# Altium schematic symbol library FPGA_Xilinx_Virtex7.SchLib: 34 symbols (part 10 of 26)
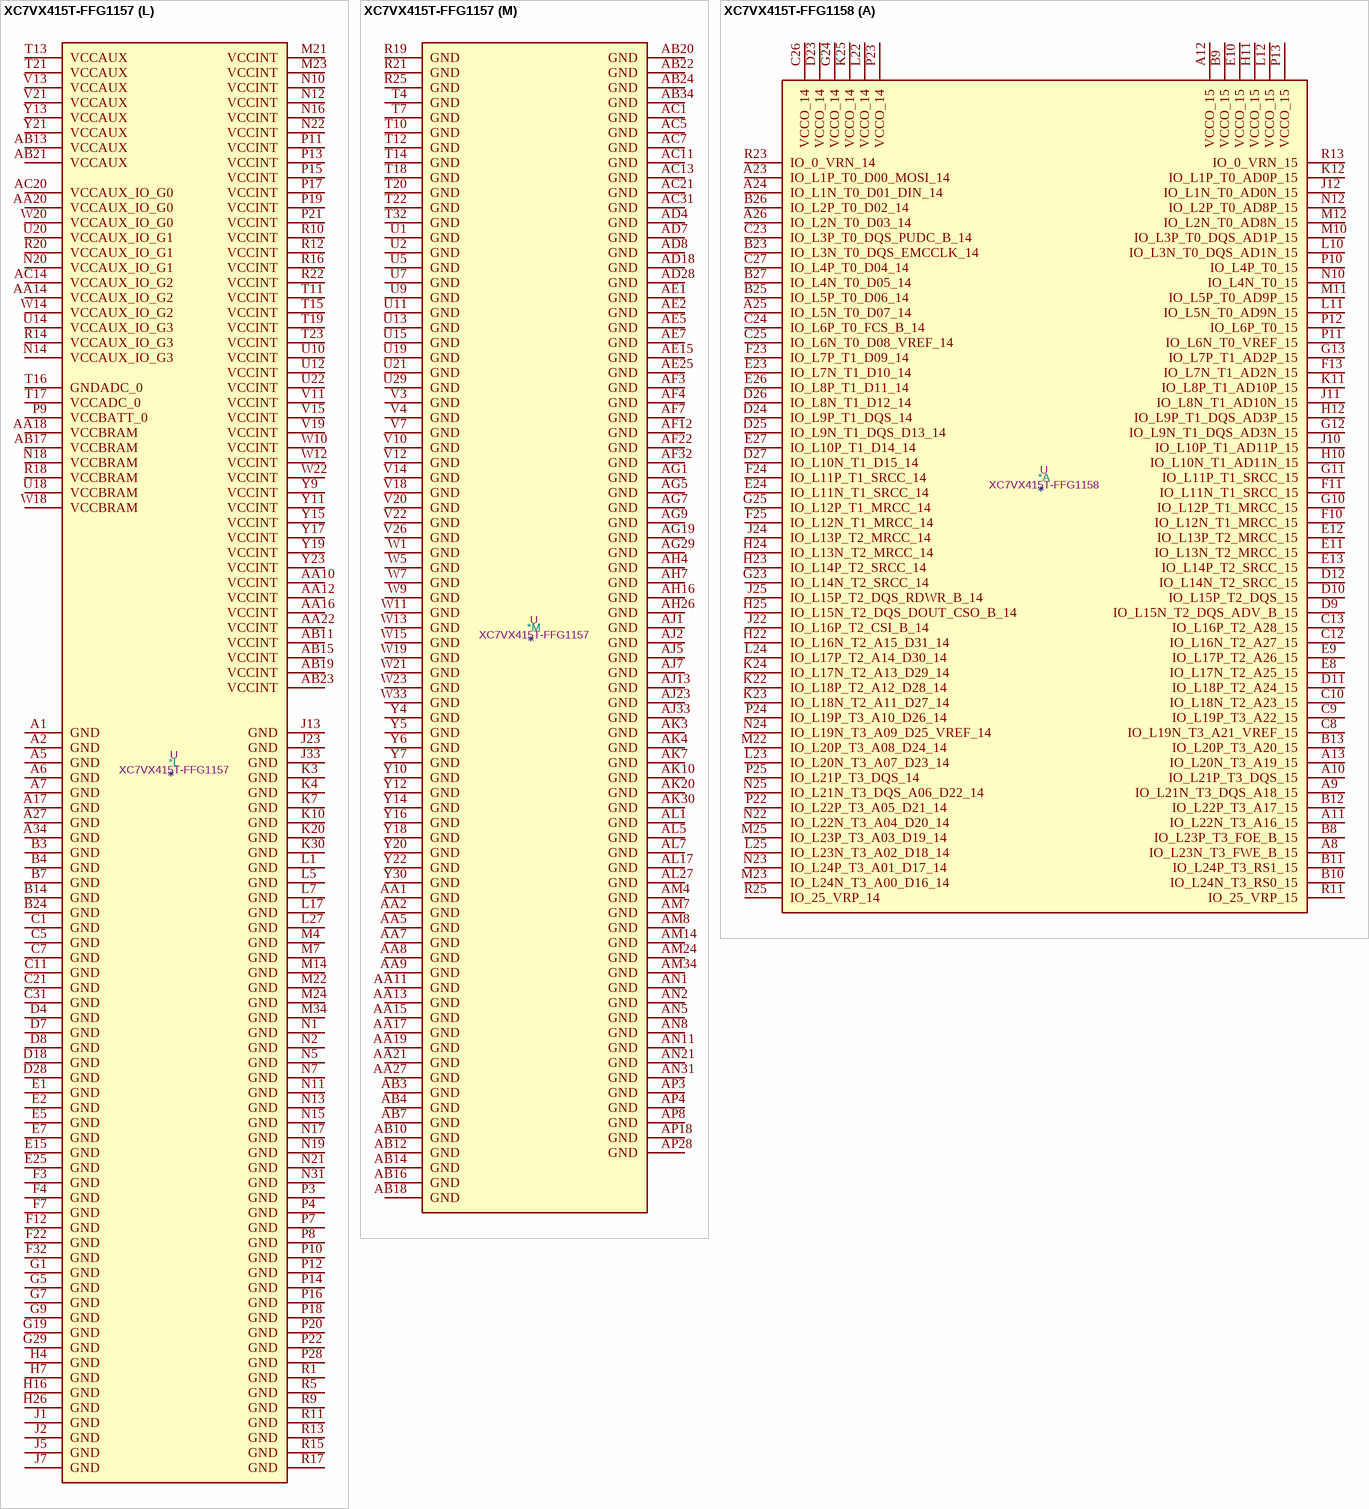
[diagram p181: symbols XC7VX415T-FFG1157 to XC7VX415T-FFG1158]

## XC7VX415T-FFG1157
designator *  value XC7VX415T-FFG1157  Reference: U
Virtex 7 XT 415 XC7VX415T-FFG1157; ki_keywords: FPGA; Description_: Virtex 7 XT 415 XC7VX415T-FFG1157
part A pins: AC23 IO_25_VRP_15, AC24 IO_L24P_T3_RS1_15, AC25 IO_L23P_T3_FOE_B_15, AC26 VCCO_15, AC27 IO_0_VRN_15, AC28 IO_L15P_T2_DQS_15, AC29 IO_L15N_T2_DQS_ADV_B_15, AC30 IO_L8P_T1_AD10P_15, AD23 VCCO_15, AD24 IO_L24N_T3_RS0_15, AD25 IO_L23N_T3_FWE_B_15, AD26 IO_L19P_T3_A22_15, AD27 IO_L19N_T3_A21_VREF_15, AD29 IO_L13P_T2_MRCC_15, AD30 IO_L8N_T1_AD10N_15, AD31 IO_L10P_T1_AD11P_15, AD32 IO_L10N_T1_AD11N_15, AD33 VCCO_15, AD34 IO_L2P_T0_AD8P_15, AE23 IO_L22P_T3_A17_15, AE24 IO_L22N_T3_A16_15, AE26 IO_L21P_T3_DQS_15, AE27 IO_L16P_T2_A28_15, AE28 IO_L14P_T2_SRCC_15, AE29 IO_L13N_T2_MRCC_15, AE30 VCCO_15, AE31 IO_L12P_T1_MRCC_15, AE32 IO_L7P_T1_AD2P_15, AE33 IO_L7N_T1_AD2N_15, AE34 IO_L2N_T0_AD8N_15, AF24 IO_25_VRP_14, AF25 IO_0_VRN_14, AF26 IO_L21N_T3_DQS_A18_15, AF27 VCCO_15, AF28 IO_L16N_T2_A27_15, AF29 IO_L14N_T2_SRCC_15, AF30 IO_L11P_T1_SRCC_15, AF31 IO_L12N_T1_MRCC_15, AF33 IO_L1P_T0_AD0P_15, AF34 IO_L1N_T0_AD0N_15, AG24 VCCO_14, AG25 IO_L16P_T2_CSI_B_14, AG26 IO_L20P_T3_A20_15, AG27 IO_L20N_T3_A19_15, AG28 IO_L17P_T2_A26_15, AG30 IO_L9P_T1_DQS_AD3P_15, AG31 IO_L11N_T1_SRCC_15, AG32 IO_L3P_T0_DQS_AD1P_15, AG33 IO_L6P_T0_15, AG34 VCCO_15, AH24 IO_L17P_T2_A14_D30_14, AH25 IO_L16N_T2_A15_D31_14, AH27 IO_L18P_T2_A24_15, AH28 IO_L18N_T2_A23_15, AH29 IO_L17N_T2_A25_15, AH30 IO_L9N_T1_DQS_AD3N_15, AH31 VCCO_15, AH32 IO_L3N_T0_DQS_AD1N_15, AH33 IO_L6N_T0_VREF_15, AH34 IO_L4P_T0_15, AJ25 IO_L17N_T2_A13_D29_14, AJ26 IO_L15P_T2_DQS_RDWR_B_14, AJ27 IO_L15N_T2_DQS_DOUT_CSO_B_14, AJ28 VCCO_14, AJ29 IO_L10P_T1_D14_14, AJ30 IO_L8P_T1_D11_14, AJ31 IO_L5P_T0_AD9P_15, AJ32 IO_L5N_T0_AD9N_15, AJ34 IO_L4N_T0_15, AK26 IO_L14P_T2_SRCC_14, AK27 IO_L14N_T2_SRCC_14, AK28 IO_L13P_T2_MRCC_14, AK29 IO_L10N_T1_D15_14, AK31 IO_L8N_T1_D12_14, AK32 IO_L4P_T0_D04_14, AK33 IO_L4N_T0_D05_14, AK34 IO_L2P_T0_D02_14, AL25 IO_L18P_T2_A12_D28_14, AL26 IO_L18N_T2_A11_D27_14, AL28 IO_L13N_T2_MRCC_14, AL29 IO_L12P_T1_MRCC_14, AL30 IO_L12N_T1_MRCC_14, AL31 IO_L11P_T1_SRCC_14, AL32 VCCO_14, AL33 IO_L6P_T0_FCS_B_14, AL34 IO_L2N_T0_D03_14, AM25 IO_L21P_T3_DQS_14, AM26 IO_L19P_T3_A10_D26_14, AM27 IO_L19N_T3_A09_D25_VREF_14, AM28 IO_L22P_T3_A05_D21_14, AM29 VCCO_14, AM30 IO_L9P_T1_DQS_14, AM31 IO_L11N_T1_SRCC_14, AM32 IO_L5P_T0_D06_14, AM33 IO_L6N_T0_D08_VREF_14, AN25 IO_L21N_T3_DQS_A06_D22_14, AN26 VCCO_14, AN27 IO_L24P_T3_A01_D17_14, AN28 IO_L22N_T3_A04_D20_14, AN29 IO_L20P_T3_A08_D24_14, AN30 IO_L9N_T1_DQS_D13_14, AN32 IO_L5N_T0_D07_14, AN33 IO_L1P_T0_D00_MOSI_14, AN34 IO_L1N_T0_D01_DIN_14, AP25 IO_L23P_T3_A03_D19_14, AP26 IO_L23N_T3_A02_D18_14, AP27 IO_L24N_T3_A00_D16_14, AP29 IO_L20N_T3_A07_D23_14, AP30 IO_L7P_T1_D09_14, AP31 IO_L7N_T1_D10_14, AP32 IO_L3P_T0_DQS_PUDC_B_14, AP33 IO_L3N_T0_DQS_EMCCLK_14, AP34 VCCO_14
part B pins: AA23 IO_L24P_T3_16, AA24 IO_L24N_T3_16, AA25 IO_L23N_T3_16, AA26 IO_L21P_T3_DQS_16, AA28 IO_L13P_T2_MRCC_16, AA29 IO_L13N_T2_MRCC_16, AA30 IO_L9P_T1_DQS_16, AA31 IO_L11N_T1_SRCC_16, AA32 VCCO_16, AA33 IO_L1P_T0_16, AA34 IO_L1N_T0_16, AB25 IO_25_VRP_16, AB26 IO_L21N_T3_DQS_16, AB27 IO_L18P_T2_16, AB28 IO_L18N_T2_16, AB29 VCCO_16, AB30 IO_L9N_T1_DQS_16, AB31 IO_L7P_T1_16, AB32 IO_L7N_T1_16, AB33 IO_L3P_T0_DQS_16, AC32 IO_L5P_T0_16, AC33 IO_L5N_T0_16, AC34 IO_L3N_T0_DQS_16, M30 IO_L8P_T1_17, M31 IO_L8N_T1_17, M32 IO_L20P_T3_17, M33 IO_L20N_T3_17, N23 IO_0_VRN_17, N24 IO_L1P_T0_17, N25 IO_L1N_T0_17, N26 VCCO_17, N27 IO_L2P_T0_17, N28 IO_L2N_T0_17, N29 IO_L7P_T1_17, N30 IO_L7N_T1_17, N32 IO_L19N_T3_VREF_17, N33 IO_L22P_T3_17, N34 IO_L22N_T3_17, P23 VCCO_17, P24 IO_L4P_T0_17, P25 IO_L4N_T0_17, P26 IO_L6P_T0_17, P27 IO_L6N_T0_VREF_17, P29 IO_L12P_T1_MRCC_17, P30 IO_L12N_T1_MRCC_17, P31 IO_L11N_T1_SRCC_17, P32 IO_L19P_T3_17, P33 VCCO_17, P34 IO_L24N_T3_17, R23 IO_L3P_T0_DQS_17, R24 IO_L3N_T0_DQS_17, R26 IO_L15P_T2_DQS_17, R27 IO_L15N_T2_DQS_17, R28 IO_L13P_T2_MRCC_17, R29 IO_L13N_T2_MRCC_17, R30 VCCO_17, R31 IO_L11P_T1_SRCC_17, R32 IO_L9N_T1_DQS_17, R33 IO_L24P_T3_17, R34 IO_L21N_T3_DQS_17, T24 IO_L5P_T0_17, T25 IO_L5N_T0_17, T26 IO_L18N_T2_17, T27 VCCO_17, T28 IO_L16N_T2_17, T29 IO_L14P_T2_SRCC_17, T30 IO_L14N_T2_SRCC_17, T31 IO_L9P_T1_DQS_17, T33 IO_L21P_T3_DQS_17, T34 IO_L23N_T3_17, U23 IO_25_VRP_17, U24 VCCO_16, U25 IO_L18P_T2_17, U26 IO_L17P_T2_17, U27 IO_L17N_T2_17, U28 IO_L16P_T2_17, U30 IO_L8P_T1_16, U31 IO_L10P_T1_17, U32 IO_L10N_T1_17, U33 IO_L23P_T3_17, U34 VCCO_17, V23 IO_0_VRN_16, V24 IO_L20P_T3_16, V25 IO_L20N_T3_16, V27 IO_L15P_T2_DQS_16, V28 IO_L15N_T2_DQS_16, V29 IO_L16P_T2_16, V30 IO_L8N_T1_16, V31 VCCO_16, V32 IO_L6P_T0_16, V33 IO_L6N_T0_VREF_16, V34 IO_L2P_T0_16, W24 IO_L22P_T3_16, W25 IO_L22N_T3_16, W26 IO_L17P_T2_16, W27 IO_L17N_T2_16, W28 VCCO_16, W29 IO_L16N_T2_16, W30 IO_L12P_T1_MRCC_16, W31 IO_L12N_T1_MRCC_16, W32 IO_L10P_T1_16, W34 IO_L2N_T0_16, Y24 IO_L23P_T3_16, Y25 VCCO_16, Y26 IO_L19P_T3_16, Y27 IO_L19N_T3_VREF_16, Y28 IO_L14P_T2_SRCC_16, Y29 IO_L14N_T2_SRCC_16, Y31 IO_L11P_T1_SRCC_16, Y32 IO_L10N_T1_16, Y33 IO_L4P_T0_16, Y34 IO_L4N_T0_16
part C pins: A25 IO_L8P_T1_19, A26 IO_L8N_T1_19, A28 IO_L15P_T2_DQS_19, A29 IO_L15N_T2_DQS_19, A30 IO_L17P_T2_19, A31 IO_L17N_T2_19, A32 VCCO_19, A33 IO_L3N_T0_DQS_19, B25 IO_L7N_T1_19, B26 IO_L10P_T1_19, B27 IO_L10N_T1_19, B28 IO_L12N_T1_MRCC_19, B29 VCCO_19, B30 IO_L13N_T2_MRCC_19, B31 IO_L1P_T0_19, B32 IO_L1N_T0_19, B33 IO_L3P_T0_DQS_19, B34 IO_L4N_T0_19, C25 IO_L7P_T1_19, C26 VCCO_19, C27 IO_L12P_T1_MRCC_19, C28 IO_L14P_T2_SRCC_19, C29 IO_L14N_T2_SRCC_19, C30 IO_L13P_T2_MRCC_19, C32 IO_L6N_T0_VREF_19, C33 IO_L4P_T0_19, C34 IO_L2N_T0_19, D25 IO_L23N_T3_19, D26 IO_L9N_T1_DQS_19, D27 IO_L11N_T1_SRCC_19, D29 IO_L16P_T2_19, D30 IO_L16N_T2_19, D31 IO_L5N_T0_19, D32 IO_L6P_T0_19, D33 VCCO_19, D34 IO_L2P_T0_19, E24 IO_L23P_T3_19, E26 IO_L9P_T1_DQS_19, E27 IO_L11P_T1_SRCC_19, E28 IO_L18P_T2_19, E29 IO_L18N_T2_19, E30 VCCO_19, E31 IO_L5P_T0_19, E32 IO_L8P_T1_18, E33 IO_L8N_T1_18, E34 IO_L10N_T1_18, F24 IO_0_VRN_19, F25 IO_L21N_T3_DQS_19, F26 IO_L22N_T3_19, F27 VCCO_19, F28 IO_L24N_T3_19, F29 IO_L17N_T2_18, F30 IO_L9P_T1_DQS_18, F31 IO_L9N_T1_DQS_18, F33 IO_L10P_T1_18, F34 IO_L7N_T1_18, G24 VCCO_19, G25 IO_L21P_T3_DQS_19, G26 IO_L22P_T3_19, G27 IO_L24P_T3_19, G28 IO_L17P_T2_18, G30 IO_L12P_T1_MRCC_18, G31 IO_L12N_T1_MRCC_18, G32 IO_L11N_T1_SRCC_18, G33 IO_L7P_T1_18, G34 VCCO_18, H24 IO_L19N_T3_VREF_19, H25 IO_L20N_T3_19, H27 IO_0_VRN_18, H28 IO_L15N_T2_DQS_18, H29 IO_L13P_T2_MRCC_18, H30 IO_L13N_T2_MRCC_18, H31 VCCO_18, H32 IO_L11P_T1_SRCC_18, H33 IO_L21P_T3_DQS_18, H34 IO_L21N_T3_DQS_18, J24 IO_L19P_T3_19, J25 IO_L20P_T3_19, J26 IO_25_VRP_19, J27 IO_L15P_T2_DQS_18, J28 VCCO_18, J29 IO_L16N_T2_18, J30 IO_L14P_T2_SRCC_18, J31 IO_L14N_T2_SRCC_18, J32 IO_L19N_T3_VREF_18, J34 IO_L23N_T3_18, K23 IO_L1N_T0_18, K24 IO_L3N_T0_DQS_18, K25 VCCO_18, K26 IO_L5P_T0_18, K27 IO_L5N_T0_18, K28 IO_L16P_T2_18, K29 IO_L18N_T2_18, K31 IO_L19P_T3_18, K32 IO_L20P_T3_18, K33 IO_L20N_T3_18, K34 IO_L23P_T3_18, L22 VCCO_18, L23 IO_L1P_T0_18, L24 IO_L3P_T0_DQS_18, L25 IO_L6N_T0_VREF_18, L26 IO_L4N_T0_18, L28 IO_L2N_T0_18, L29 IO_L18P_T2_18, L30 IO_L24P_T3_18, L31 IO_L24N_T3_18, L32 VCCO_18, L33 IO_L22P_T3_18, L34 IO_L22N_T3_18, M25 IO_L6P_T0_18, M26 IO_L4P_T0_18, M27 IO_L2P_T0_18, M28 IO_25_VRP_18, M29 VCCO_18
part D pins: AC9 IO_L2N_T0_34, AC10 IO_L2P_T0_34, AC12 IO_0_VRN_34, AC15 IO_25_VRP_35, AC16 VCCO_35, AC17 IO_L22P_T3_35, AD9 IO_L4N_T0_34, AD10 IO_L4P_T0_34, AD11 IO_L6N_T0_VREF_34, AD12 IO_L6P_T0_34, AD13 VCCO_34, AD14 IO_L23P_T3_35, AD15 IO_L24N_T3_35, AD16 IO_L24P_T3_35, AD17 IO_L22N_T3_35, AE8 IO_L1N_T0_34, AE9 IO_L1P_T0_34, AE10 VCCO_34, AE11 IO_L3N_T0_DQS_34, AE12 IO_L3P_T0_DQS_34, AE13 IO_L23N_T3_35, AE14 IO_L21P_T3_DQS_35, AE16 IO_L20N_T3_35, AE17 IO_L20P_T3_35, AE18 IO_0_VRN_35, AF8 IO_L5N_T0_34, AF9 IO_L5P_T0_34, AF10 IO_L10P_T1_34, AF11 IO_L7P_T1_34, AF13 IO_L19P_T3_35, AF14 IO_L21N_T3_DQS_35, AF15 IO_L16P_T2_35, AF16 IO_L14P_T2_SRCC_35, AF17 VCCO_35, AF18 IO_L15P_T2_DQS_35, AG8 IO_L8P_T1_34, AG10 IO_L10N_T1_34, AG11 IO_L7N_T1_34, AG12 IO_L9P_T1_DQS_34, AG13 IO_L19N_T3_VREF_35, AG14 VCCO_35, AG15 IO_L16N_T2_35, AG16 IO_L14N_T2_SRCC_35, AG17 IO_L13P_T2_MRCC_35, AG18 IO_L15N_T2_DQS_35, AH8 IO_L8N_T1_34, AH9 IO_L12P_T1_MRCC_34, AH10 IO_L11P_T1_SRCC_34, AH11 VCCO_34, AH12 IO_L9N_T1_DQS_34, AH13 IO_25_VRP_34, AH14 IO_L18P_T2_35, AH15 IO_L12P_T1_MRCC_35, AH17 IO_L13N_T2_MRCC_35, AH18 IO_L17N_T2_35, AH19 IO_L17P_T2_35, AJ8 VCCO_34, AJ9 IO_L12N_T1_MRCC_34, AJ10 IO_L11N_T1_SRCC_34, AJ11 IO_L13P_T2_MRCC_34, AJ12 IO_L14P_T2_SRCC_34, AJ14 IO_L18N_T2_35, AJ15 IO_L12N_T1_MRCC_35, AJ16 IO_L11P_T1_SRCC_35, AJ17 IO_L10P_T1_AD15P_35, AJ18 VCCO_35, AK8 IO_L15P_T2_DQS_34, AK9 IO_L17P_T2_34, AK11 IO_L13N_T2_MRCC_34, AK12 IO_L14N_T2_SRCC_34, AK13 IO_L24P_T3_34, AK14 IO_L9P_T1_DQS_AD7P_35, AK15 VCCO_35, AK16 IO_L11N_T1_SRCC_35, AK17 IO_L10N_T1_AD15N_35, AK18 IO_L8P_T1_AD14P_35, AL8 IO_L15N_T2_DQS_34, AL9 IO_L17N_T2_34, AL10 IO_L16P_T2_34, AL11 IO_L18P_T2_34, AL12 VCCO_34, AL13 IO_L24N_T3_34, AL14 IO_L9N_T1_DQS_AD7N_35, AL15 IO_L7P_T1_AD6P_35, AL16 IO_L3P_T0_DQS_AD5P_35, AL18 IO_L8N_T1_AD14N_35, AM9 VCCO_34, AM10 IO_L16N_T2_34, AM11 IO_L18N_T2_34, AM12 IO_L19P_T3_34, AM13 IO_L23P_T3_34, AM15 IO_L7N_T1_AD6N_35, AM16 IO_L3N_T0_DQS_AD5N_35, AM17 IO_L6P_T0_35, AM18 IO_L2P_T0_AD12P_35, AN9 IO_L20P_T3_34, AN10 IO_L21P_T3_DQS_34, AN12 IO_L19N_T3_VREF_34, AN13 IO_L23N_T3_34, AN14 IO_L5P_T0_AD13P_35, AN15 IO_L1P_T0_AD4P_35, AN16 VCCO_35, AN17 IO_L6N_T0_VREF_35, AN18 IO_L2N_T0_AD12N_35, AP9 IO_L20N_T3_34, AP10 IO_L21N_T3_DQS_34, AP11 IO_L22N_T3_34, AP12 IO_L22P_T3_34, AP13 VCCO_34, AP14 IO_L5N_T0_AD13N_35, AP15 IO_L1N_T0_AD4N_35, AP16 IO_L4N_T0_35, AP17 IO_L4P_T0_35
part E pins: A19 IO_L7P_T1_37, A20 IO_L7N_T1_37, A21 IO_L9N_T1_DQS_37, A22 VCCO_37, A23 IO_L20P_T3_37, A24 IO_L20N_T3_37, AC18 IO_25_VRP_36, AC19 IO_L19P_T3_36, AC22 IO_0_VRN_36, AD19 IO_L23P_T3_36, AD20 IO_L19N_T3_VREF_36, AD21 IO_L22P_T3_36, AD22 IO_L20P_T3_36, AE19 IO_L23N_T3_36, AE20 VCCO_36, AE21 IO_L22N_T3_36, AE22 IO_L20N_T3_36, AF19 IO_L21P_T3_DQS_36, AF20 IO_L21N_T3_DQS_36, AF21 IO_L24P_T3_36, AF23 IO_L15P_T2_DQS_36, AG20 IO_L18P_T2_36, AG21 IO_L24N_T3_36, AG22 IO_L13P_T2_MRCC_36, AG23 IO_L15N_T2_DQS_36, AH20 IO_L18N_T2_36, AH21 VCCO_36, AH22 IO_L13N_T2_MRCC_36, AH23 IO_L17P_T2_36, AJ19 IO_L16P_T2_36, AJ20 IO_L16N_T2_36, AJ21 IO_L14P_T2_SRCC_36, AJ22 IO_L12P_T1_MRCC_36, AJ24 IO_L17N_T2_36, AK19 IO_L9P_T1_DQS_36, AK21 IO_L14N_T2_SRCC_36, AK22 IO_L12N_T1_MRCC_36, AK23 IO_L10P_T1_36, AK24 IO_L8P_T1_36, AK25 VCCO_36, AL19 IO_L9N_T1_DQS_36, AL20 IO_L11P_T1_SRCC_36, AL21 IO_L11N_T1_SRCC_36, AL22 VCCO_36, AL23 IO_L10N_T1_36, AL24 IO_L8N_T1_36, AM19 VCCO_36, AM20 IO_L7P_T1_36, AM21 IO_L7N_T1_36, AM22 IO_L3P_T0_DQS_36, AM23 IO_L6P_T0_36, AN19 IO_L4P_T0_36, AN20 IO_L2P_T0_36, AN22 IO_L3N_T0_DQS_36, AN23 IO_L6N_T0_VREF_36, AN24 IO_L1P_T0_36, AP19 IO_L4N_T0_36, AP20 IO_L2N_T0_36, AP21 IO_L5P_T0_36, AP22 IO_L5N_T0_36, AP23 VCCO_36, AP24 IO_L1N_T0_36, B19 VCCO_37, B20 IO_L10N_T1_37, B21 IO_L9P_T1_DQS_37, B22 IO_L21N_T3_DQS_37, B23 IO_L22N_T3_37, C19 IO_L10P_T1_37, C20 IO_L11N_T1_SRCC_37, C22 IO_L21P_T3_DQS_37, C23 IO_L22P_T3_37, C24 IO_L24N_T3_37, D19 IO_L8N_T1_37, D20 IO_L11P_T1_SRCC_37, D21 IO_L12N_T1_MRCC_37, D22 IO_L19N_T3_VREF_37, D23 VCCO_37, D24 IO_L24P_T3_37, E19 IO_L8P_T1_37, E20 VCCO_37, E21 IO_L12P_T1_MRCC_37, E22 IO_L19P_T3_37, E23 IO_L23N_T3_37, F19 IO_L15P_T2_DQS_37, F20 IO_L15N_T2_DQS_37, F21 IO_L13N_T2_MRCC_37, F23 IO_L23P_T3_37, G20 IO_L6N_T0_VREF_37, G21 IO_L13P_T2_MRCC_37, G22 IO_L14N_T2_SRCC_37, G23 IO_L16N_T2_37, H18 IO_0_VRN_37, H19 IO_L6P_T0_37, H20 IO_L3N_T0_DQS_37, H21 VCCO_37, H22 IO_L14P_T2_SRCC_37, H23 IO_L16P_T2_37, J18 VCCO_37, J19 IO_L4N_T0_37, J20 IO_L3P_T0_DQS_37, J21 IO_L17N_T2_37, J22 IO_L18N_T2_37, K18 IO_L4P_T0_37, K19 IO_L1N_T0_37, K21 IO_L17P_T2_37, K22 IO_L18P_T2_37, L18 IO_L2N_T0_37, L19 IO_L1P_T0_37, L20 IO_L5N_T0_37, L21 IO_25_VRP_37, M18 IO_L2P_T0_37, M19 VCCO_37, M20 IO_L5P_T0_37
part F pins: A8 IO_L1N_T0_39, A9 IO_L1P_T0_39, A10 IO_L2N_T0_39, A11 IO_L2P_T0_39, A12 VCCO_38, A13 IO_L21N_T3_DQS_38, A14 IO_L21P_T3_DQS_38, A15 IO_L20N_T3_38, A16 IO_L22N_T3_38, A18 IO_L24N_T3_38, B8 IO_L3N_T0_DQS_39, B9 VCCO_39, B10 IO_L4N_T0_39, B11 IO_L4P_T0_39, B12 IO_L6N_T0_VREF_39, B13 IO_L19N_T3_VREF_38, B15 IO_L23N_T3_38, B16 IO_L20P_T3_38, B17 IO_L22P_T3_38, B18 IO_L24P_T3_38, C8 IO_L5N_T0_39, C9 IO_L3P_T0_DQS_39, C10 IO_L10N_T1_39, C12 IO_L6P_T0_39, C13 IO_L19P_T3_38, C14 IO_L17N_T2_38, C15 IO_L23P_T3_38, C16 VCCO_38, C17 IO_L18N_T2_38, C18 IO_L18P_T2_38, D9 IO_L5P_T0_39, D10 IO_L10P_T1_39, D11 IO_L11N_T1_SRCC_39, D12 IO_L8N_T1_39, D13 VCCO_38, D14 IO_L15N_T2_DQS_38, D15 IO_L17P_T2_38, D16 IO_L13N_T2_MRCC_38, D17 IO_L14N_T2_SRCC_38, E8 IO_L7N_T1_39, E9 IO_L7P_T1_39, E10 VCCO_39, E11 IO_L11P_T1_SRCC_39, E12 IO_L8P_T1_39, E13 IO_L7N_T1_38, E14 IO_L15P_T2_DQS_38, E16 IO_L13P_T2_MRCC_38, E17 IO_L14P_T2_SRCC_38, E18 IO_L16N_T2_38, F8 IO_L9N_T1_DQS_39, F9 IO_L9P_T1_DQS_39, F10 IO_L12N_T1_MRCC_39, F11 IO_L12P_T1_MRCC_39, F13 IO_L10N_T1_38, F14 IO_L7P_T1_38, F15 IO_L12N_T1_MRCC_38, F16 IO_L11N_T1_SRCC_38, F17 VCCO_38, F18 IO_L16P_T2_38, G8 IO_L18N_T2_39, G10 IO_L13N_T2_MRCC_39, G11 IO_L13P_T2_MRCC_39, G12 IO_L16N_T2_39, G13 IO_L10P_T1_38, G14 VCCO_38, G15 IO_L12P_T1_MRCC_38, G16 IO_L11P_T1_SRCC_38, G17 IO_L9N_T1_DQS_38, G18 IO_25_VRP_38, H8 IO_L18P_T2_39, H9 IO_L14N_T2_SRCC_39, H10 IO_L14P_T2_SRCC_39, H11 VCCO_39, H12 IO_L16P_T2_39, H13 IO_0_VRN_39, H14 IO_L8N_T1_38, H15 IO_L1N_T0_38, H17 IO_L9P_T1_DQS_38, J8 VCCO_39, J9 IO_L15N_T2_DQS_39, J10 IO_L15P_T2_DQS_39, J11 IO_L17N_T2_39, J12 IO_L19N_T3_VREF_39, J14 IO_L8P_T1_38, J15 IO_L1P_T0_38, J16 IO_L6N_T0_VREF_38, J17 IO_L5N_T0_38, K8 IO_25_VRP_39, K9 IO_L20N_T3_39, K11 IO_L17P_T2_39, K12 IO_L19P_T3_39, K13 IO_L21N_T3_DQS_39, K14 IO_L4N_T0_38, K15 VCCO_38, K16 IO_L6P_T0_38, K17 IO_L5P_T0_38, L9 IO_L20P_T3_39, L10 IO_L22N_T3_39, L11 IO_L24N_T3_39, L12 VCCO_39, L13 IO_L21P_T3_DQS_39, L14 IO_L4P_T0_38, L15 IO_L2N_T0_38, L16 IO_0_VRN_38, M9 VCCO_39, M10 IO_L22P_T3_39, M11 IO_L24P_T3_39, M12 IO_L23N_T3_39, M13 IO_L23P_T3_39, M15 IO_L2P_T0_38, M16 IO_L3N_T0_DQS_38, M17 IO_L3P_T0_DQS_38
part G pins: AB1 MGTHTXN3_115, AB2 MGTHTXP3_115, AB5 MGTREFCLK0N_115, AB6 MGTREFCLK0P_115, AC3 MGTHRXN3_115, AC4 MGTHRXP3_115, AD1 MGTHTXN2_115, AD2 MGTHTXP2_115, AD5 MGTREFCLK1N_115, AD6 MGTREFCLK1P_115, AE3 MGTHRXN2_115, AE4 MGTHRXP2_115, AF1 MGTHTXN1_115, AF2 MGTHTXP1_115, AF5 MGTHRXN1_115, AF6 MGTHRXP1_115, AG3 MGTHRXN0_115, AG4 MGTHRXP0_115, AH1 MGTHTXN0_115, AH2 MGTHTXP0_115, AH5 MGTREFCLK0N_114, AH6 MGTREFCLK0P_114, AJ3 MGTHRXN3_114, AJ4 MGTHRXP3_114, AK1 MGTHTXN3_114, AK2 MGTHTXP3_114, AK5 MGTREFCLK1N_114, AK6 MGTREFCLK1P_114, AL3 MGTHRXN2_114, AL4 MGTHRXP2_114, AM1 MGTHTXN2_114, AM2 MGTHTXP2_114, AM5 MGTHRXN1_114, AM6 MGTHRXP1_114, AN3 MGTHTXN1_114, AN4 MGTHTXP1_114, AP1 MGTHTXN0_114, AP2 MGTHTXP0_114, AP5 MGTHRXN0_114, AP6 MGTHRXP0_114
part H pins: AA3 MGTHRXN0_116, AA4 MGTHRXP0_116, F1 MGTHTXN3_117, F2 MGTHTXP3_117, H1 MGTHTXN2_117, H2 MGTHTXP2_117, J3 MGTHRXN3_117, J4 MGTHRXP3_117, K1 MGTHTXN1_117, K2 MGTHTXP1_117, K5 MGTHRXN2_117, K6 MGTHRXP2_117, L3 MGTHRXN1_117, L4 MGTHRXP1_117, M1 MGTHTXN0_117, M2 MGTHTXP0_117, M5 MGTREFCLK0N_117, M6 MGTREFCLK0P_117, N3 MGTHRXN0_117, N4 MGTHRXP0_117, P1 MGTHTXN3_116, P2 MGTHTXP3_116, P5 MGTREFCLK1N_117, P6 MGTREFCLK1P_117, R3 MGTHRXN3_116, R4 MGTHRXP3_116, T1 MGTHTXN2_116, T2 MGTHTXP2_116, T5 MGTREFCLK0N_116, T6 MGTREFCLK0P_116, U3 MGTHRXN2_116, U4 MGTHRXP2_116, V1 MGTHTXN1_116, V2 MGTHTXP1_116, V5 MGTREFCLK1N_116, V6 MGTREFCLK1P_116, W3 MGTHRXN1_116, W4 MGTHRXP1_116, Y1 MGTHTXN0_116, Y2 MGTHTXP0_116
part I pins: A3 MGTHTXN3_118, A4 MGTHTXP3_118, B1 MGTHTXN2_118, B2 MGTHTXP2_118, B5 MGTHRXN3_118, B6 MGTHRXP3_118, C3 MGTHTXN1_118, C4 MGTHTXP1_118, D1 MGTHTXN0_118, D2 MGTHTXP0_118, D5 MGTHRXN2_118, D6 MGTHRXP2_118, E3 MGTHRXN1_118, E4 MGTHRXP1_118, F5 MGTREFCLK0N_118, F6 MGTREFCLK0P_118, G3 MGTHRXN0_118, G4 MGTHRXP0_118, H5 MGTREFCLK1N_118, H6 MGTREFCLK1P_118
part J pins: AA6 MGTAVCC_G10, AC2 MGTAVTT_G10, AC6 MGTAVCC_G10, AD3 MGTAVTT_G10, AE6 MGTAVCC_G10, AG2 MGTAVTT_G10, AG6 MGTAVCC_G10, AH3 MGTAVTT_G10, AJ6 MGTAVCC_G10, AL2 MGTAVTT_G10, AL6 MGTAVCC_G10, AM3 MGTAVTT_G10, AN6 MGTAVCC_G10, AN7 MGTRREF_115, AP7 MGTAVTTRCAL_115, C2 MGTAVTT_G11, C6 MGTAVCC_G11, D3 MGTAVTT_G11, E6 MGTAVCC_G11, G2 MGTAVTT_G11, G6 MGTAVCC_G11, H3 MGTAVTT_G11, J6 MGTAVCC_G11, L2 MGTAVTT_G11, L6 MGTAVCC_G11, M3 MGTAVTT_G11, N6 MGTVCCAUX_G11, R2 MGTAVTT_G10, R6 MGTVCCAUX_G10, T3 MGTAVTT_G10, U6 MGTAVCC_G10, W2 MGTAVTT_G10, W6 MGTAVCC_G10, Y3 MGTAVTT_G10
part K pins: AB8 M1_0, AB9 VCCO_0, AC8 M0_0, L8 TDI_0, M8 TCK_0, N8 TDO_0, N9 TMS_0, T8 INIT_B_0, T9 CCLK_0, U8 PROGRAM_B_0, U16 VN_0, U17 VP_0, V8 DONE_0, V9 CFGBVS_0, V16 VREFN_0, V17 VREFP_0, W8 VCCO_0, W16 DXN_0, W17 DXP_0, Y8 M2_0
part L pins: A1 GND, A2 GND, A5 GND, A6 GND, A7 GND, A17 GND, A27 GND, A34 GND, AA10 VCCINT, AA12 VCCINT, AA14 VCCAUX_IO_G2, AA16 VCCINT, AA18 VCCBRAM, AA20 VCCAUX_IO_G0, AA22 VCCINT, AB11 VCCINT, AB13 VCCAUX, AB15 VCCINT, AB17 VCCBRAM, AB19 VCCINT, AB21 VCCAUX, AB23 VCCINT, AC14 VCCAUX_IO_G2, AC20 VCCAUX_IO_G0, B3 GND, B4 GND, B7 GND, B14 GND, B24 GND, C1 GND, C5 GND, C7 GND, C11 GND, C21 GND, C31 GND, D4 GND, D7 GND, D8 GND, D18 GND, D28 GND, E1 GND, E2 GND, E5 GND, E7 GND, E15 GND, E25 GND, F3 GND, F4 GND, F7 GND, F12 GND, F22 GND, F32 GND, G1 GND, G5 GND, G7 GND, G9 GND, G19 GND, G29 GND, H4 GND, H7 GND, H16 GND, H26 GND, J1 GND, J2 GND, J5 GND, J7 GND, J13 GND, J23 GND, J33 GND, K3 GND, K4 GND, K7 GND, K10 GND, K20 GND, K30 GND, L1 GND, L5 GND, L7 GND, L17 GND, L27 GND, M4 GND, M7 GND, M14 GND, M21 VCCINT, M22 GND, M23 VCCINT, M24 GND, M34 GND, N1 GND, N2 GND, N5 GND, N7 GND, N10 VCCINT, N11 GND, N12 VCCINT, N13 GND, N14 VCCAUX_IO_G3, N15 GND, N16 VCCINT, N17 GND, N18 VCCBRAM, N19 GND, N20 VCCAUX_IO_G1, N21 GND, N22 VCCINT, N31 GND, P3 GND, P4 GND, P7 GND, P8 GND, P9 VCCBATT_0, P10 GND, P11 VCCINT, P12 GND, P13 VCCINT, P14 GND, P15 VCCINT, P16 GND, P17 VCCINT, P18 GND, P19 VCCINT, P20 GND, P21 VCCINT, P22 GND, P28 GND, R1 GND, R5 GND, R9 GND, R10 VCCINT, R11 GND, R12 VCCINT, R13 GND, R14 VCCAUX_IO_G3, R15 GND, R16 VCCINT, R17 GND, R18 VCCBRAM, R20 VCCAUX_IO_G1, R22 VCCINT, T11 VCCINT, T13 VCCAUX, T15 VCCINT, T16 GNDADC_0, T17 VCCADC_0, T19 VCCINT, T21 VCCAUX, T23 VCCINT, U10 VCCINT, U12 VCCINT, U14 VCCAUX_IO_G3, U18 VCCBRAM, U20 VCCAUX_IO_G1, U22 VCCINT, V11 VCCINT, V13 VCCAUX, V15 VCCINT, V19 VCCINT, V21 VCCAUX, W10 VCCINT, W12 VCCINT, W14 VCCAUX_IO_G2, W18 VCCBRAM, W20 VCCAUX_IO_G0, W22 VCCINT, Y9 VCCINT, Y11 VCCINT, Y13 VCCAUX, Y15 VCCINT, Y17 VCCINT, Y19 VCCINT, Y21 VCCAUX, Y23 VCCINT
part M pins: AA1 GND, AA2 GND, AA5 GND, AA7 GND, AA8 GND, AA9 GND, AA11 GND, AA13 GND, AA15 GND, AA17 GND, AA19 GND, AA21 GND, AA27 GND, AB3 GND, AB4 GND, AB7 GND, AB10 GND, AB12 GND, AB14 GND, AB16 GND, AB18 GND, AB20 GND, AB22 GND, AB24 GND, AB34 GND, AC1 GND, AC5 GND, AC7 GND, AC11 GND, AC13 GND, AC21 GND, AC31 GND, AD4 GND, AD7 GND, AD8 GND, AD18 GND, AD28 GND, AE1 GND, AE2 GND, AE5 GND, AE7 GND, AE15 GND, AE25 GND, AF3 GND, AF4 GND, AF7 GND, AF12 GND, AF22 GND, AF32 GND, AG1 GND, AG5 GND, AG7 GND, AG9 GND, AG19 GND, AG29 GND, AH4 GND, AH7 GND, AH16 GND, AH26 GND, AJ1 GND, AJ2 GND, AJ5 GND, AJ7 GND, AJ13 GND, AJ23 GND, AJ33 GND, AK3 GND, AK4 GND, AK7 GND, AK10 GND, AK20 GND, AK30 GND, AL1 GND, AL5 GND, AL7 GND, AL17 GND, AL27 GND, AM4 GND, AM7 GND, AM8 GND, AM14 GND, AM24 GND, AM34 GND, AN1 GND, AN2 GND, AN5 GND, AN8 GND, AN11 GND, AN21 GND, AN31 GND, AP3 GND, AP4 GND, AP8 GND, AP18 GND, AP28 GND, R19 GND, R21 GND, R25 GND, T4 GND, T7 GND, T10 GND, T12 GND, T14 GND, T18 GND, T20 GND, T22 GND, T32 GND, U1 GND, U2 GND, U5 GND, U7 GND, U9 GND, U11 GND, U13 GND, U15 GND, U19 GND, U21 GND, U29 GND, V3 GND, V4 GND, V7 GND, V10 GND, V12 GND, V14 GND, V18 GND, V20 GND, V22 GND, V26 GND, W1 GND, W5 GND, W7 GND, W9 GND, W11 GND, W13 GND, W15 GND, W19 GND, W21 GND, W23 GND, W33 GND, Y4 GND, Y5 GND, Y6 GND, Y7 GND, Y10 GND, Y12 GND, Y14 GND, Y16 GND, Y18 GND, Y20 GND, Y22 GND, Y30 GND

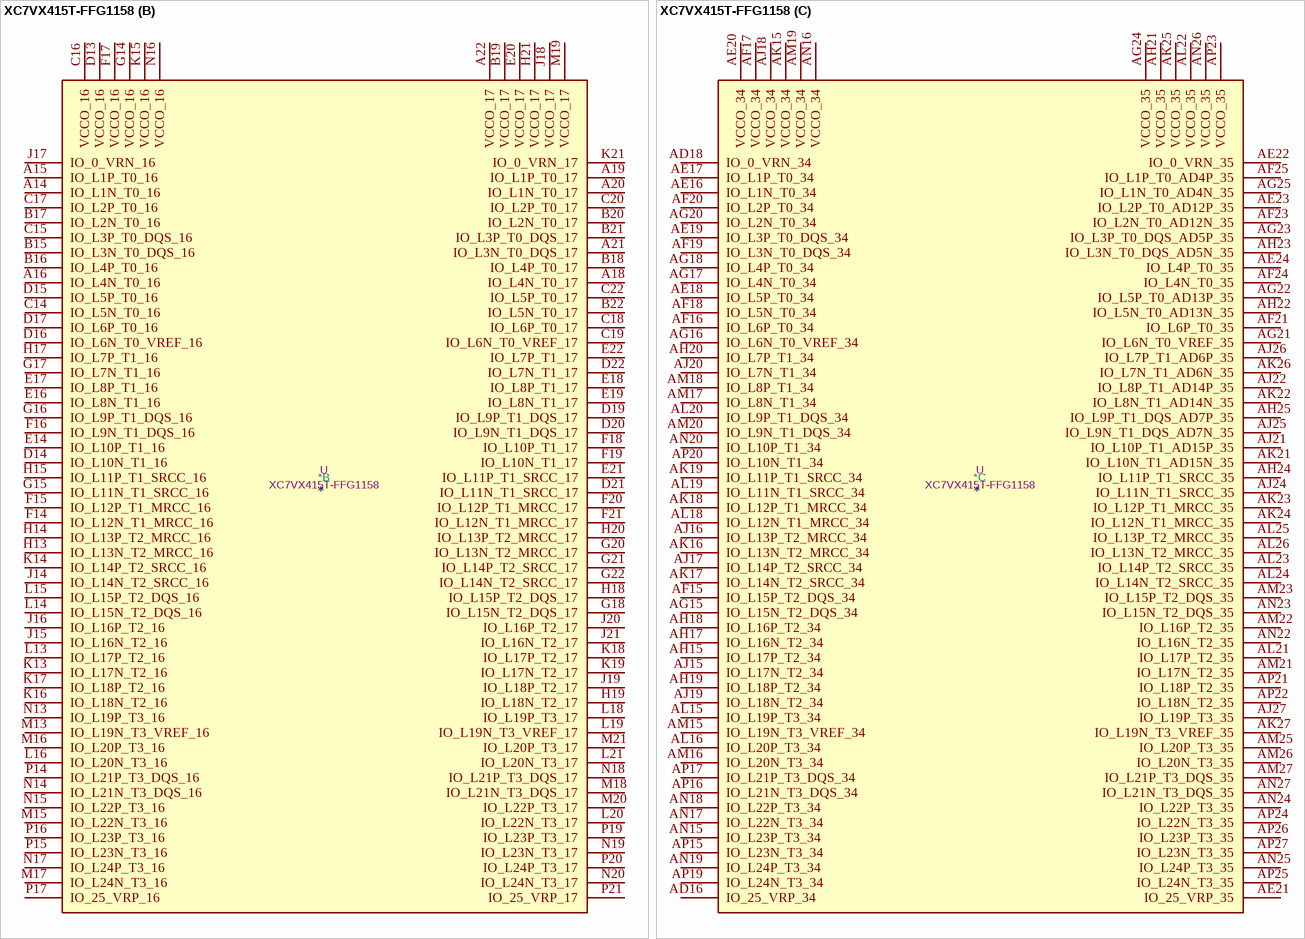
[diagram p64: symbol XC7VX415T-FFG1158]

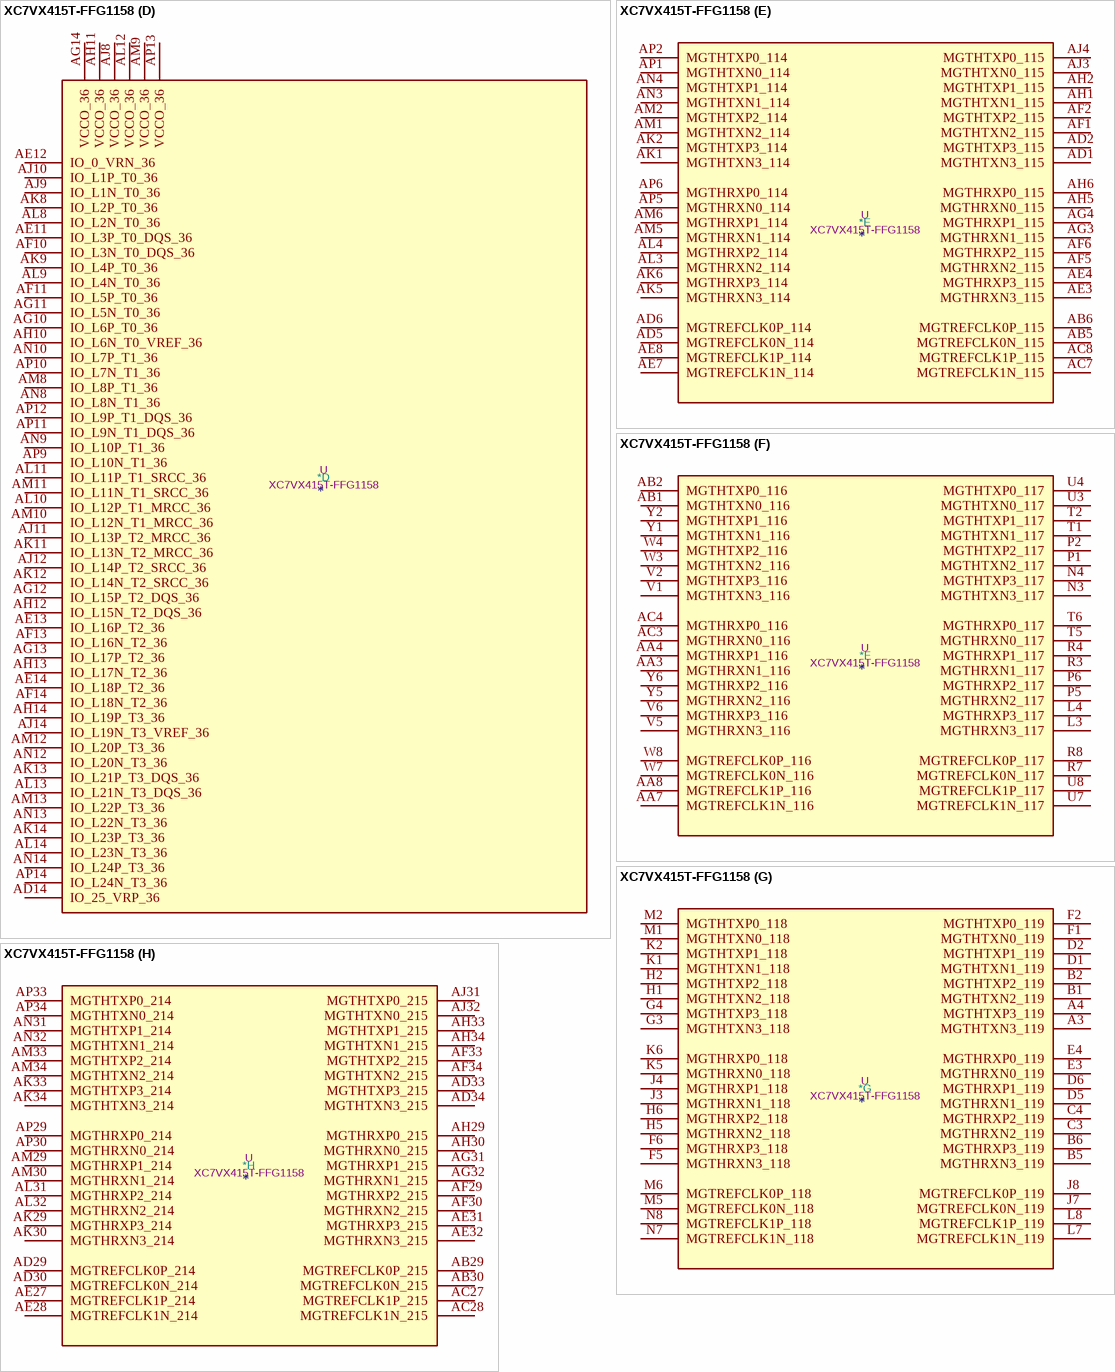
[diagram p65: symbol XC7VX415T-FFG1158]

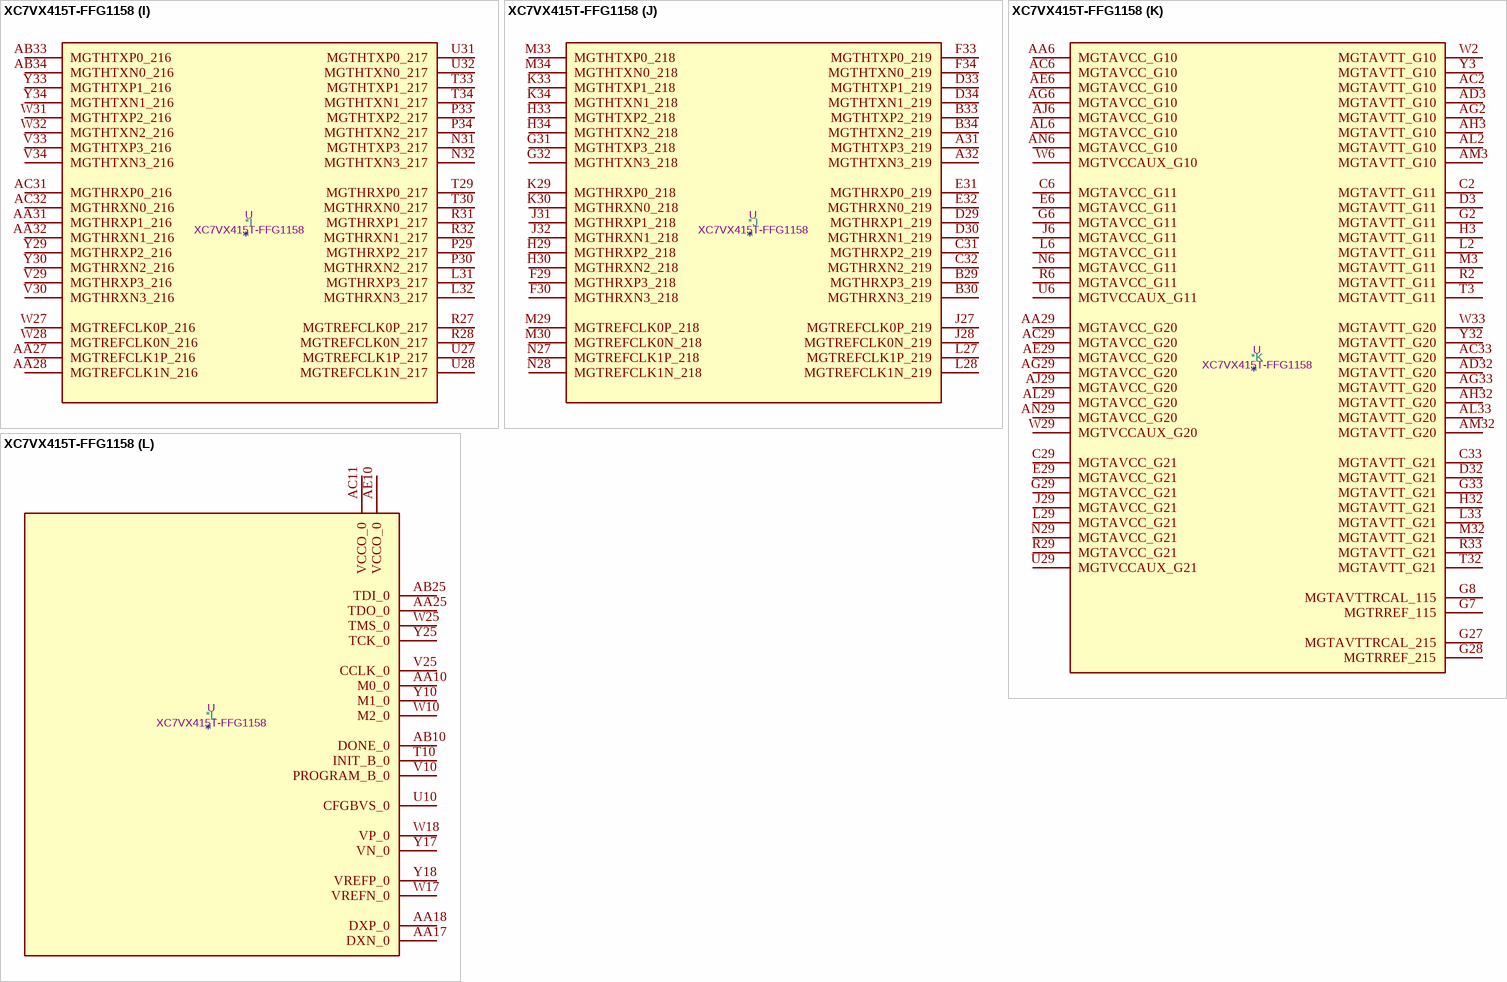
[diagram p66: symbol XC7VX415T-FFG1158]

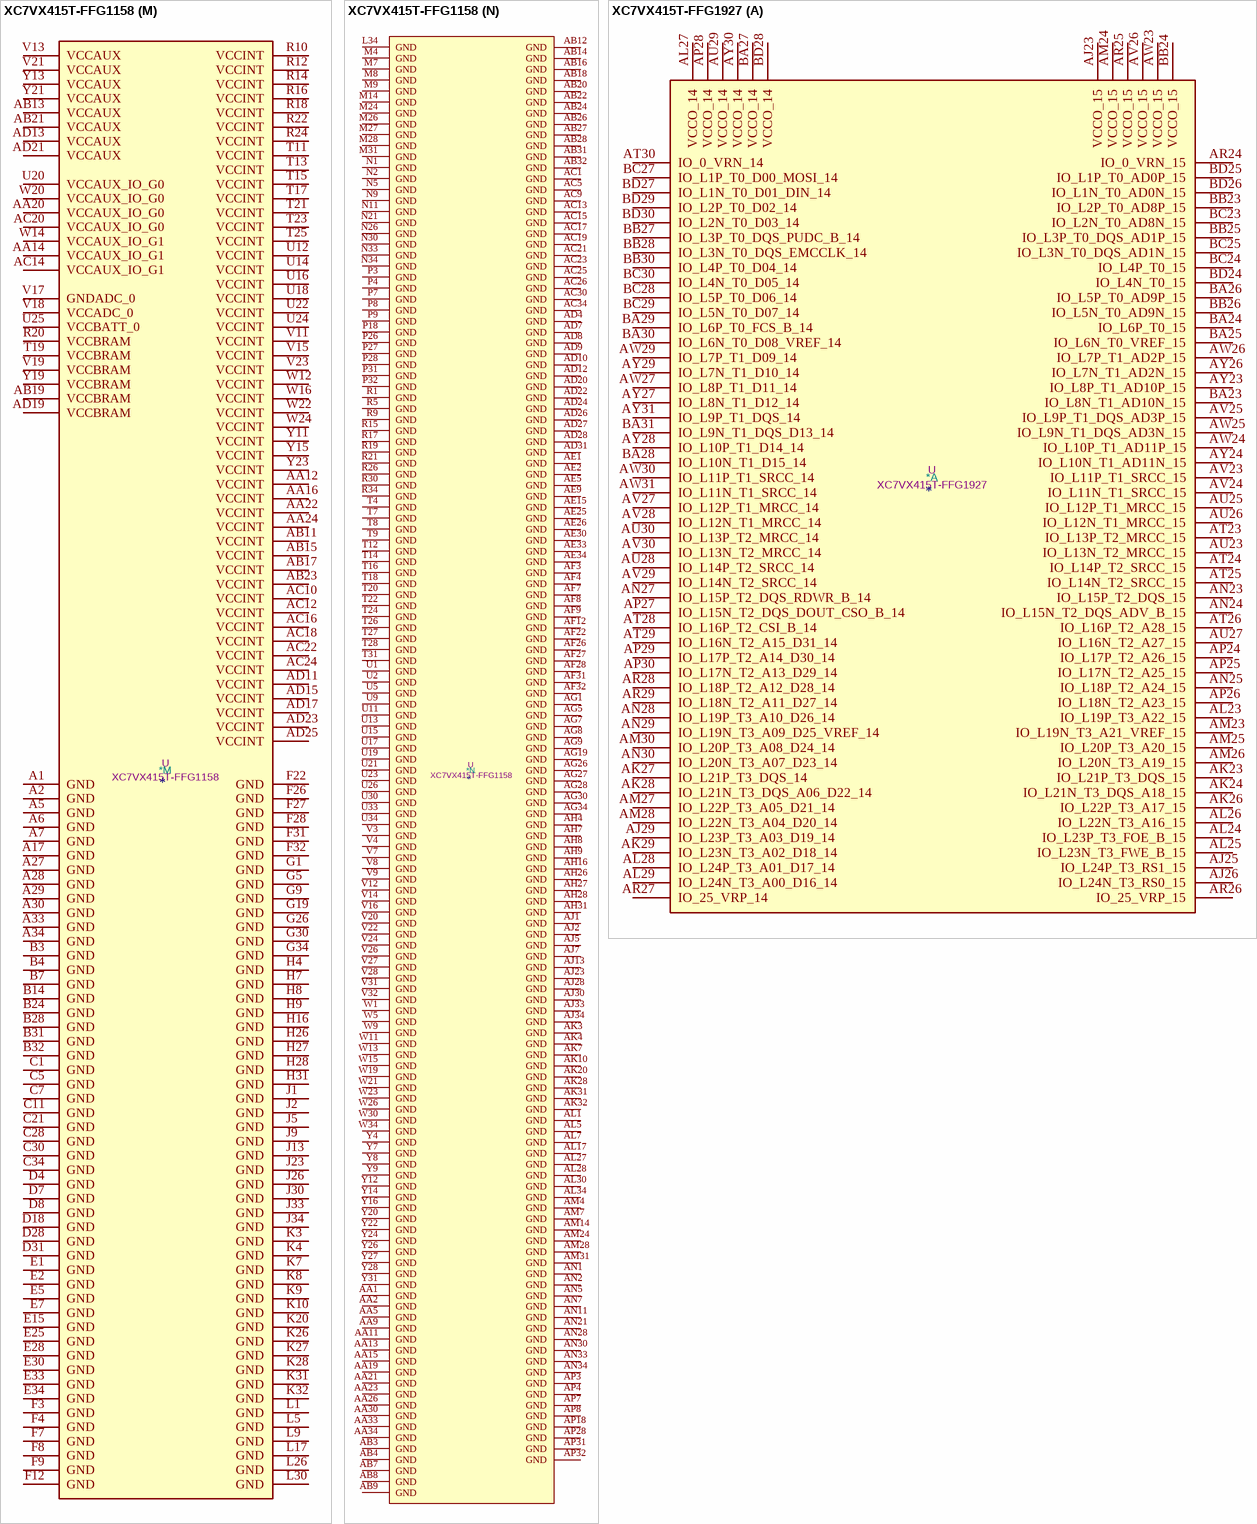
[diagram p67: symbols XC7VX415T-FFG1158 to XC7VX415T-FFG1927]

## XC7VX415T-FFG1158
designator *  value XC7VX415T-FFG1158  Reference: U
Virtex 7 XT 415 XC7VX415T-FFG1158; ki_keywords: FPGA; Description_: Virtex 7 XT 415 XC7VX415T-FFG1158
part A pins: A8 IO_L23N_T3_FWE_B_15, A9 IO_L21N_T3_DQS_A18_15, A10 IO_L21P_T3_DQS_15, A11 IO_L22N_T3_A16_15, A12 VCCO_15, A13 IO_L20N_T3_A19_15, A23 IO_L1P_T0_D00_MOSI_14, A24 IO_L1N_T0_D01_DIN_14, A25 IO_L5N_T0_D07_14, A26 IO_L2N_T0_D03_14, B8 IO_L23P_T3_FOE_B_15, B9 VCCO_15, B10 IO_L24N_T3_RS0_15, B11 IO_L24P_T3_RS1_15, B12 IO_L22P_T3_A17_15, B13 IO_L20P_T3_A20_15, B23 IO_L3N_T0_DQS_EMCCLK_14, B25 IO_L5P_T0_D06_14, B26 IO_L2P_T0_D02_14, B27 IO_L4N_T0_D05_14, C8 IO_L19N_T3_A21_VREF_15, C9 IO_L19P_T3_A22_15, C10 IO_L18N_T2_A23_15, C12 IO_L16N_T2_A27_15, C13 IO_L16P_T2_A28_15, C23 IO_L3P_T0_DQS_PUDC_B_14, C24 IO_L6P_T0_FCS_B_14, C25 IO_L6N_T0_D08_VREF_14, C26 VCCO_14, C27 IO_L4P_T0_D04_14, D9 IO_L15N_T2_DQS_ADV_B_15, D10 IO_L15P_T2_DQS_15, D11 IO_L18P_T2_A24_15, D12 IO_L14N_T2_SRCC_15, D23 VCCO_14, D24 IO_L9P_T1_DQS_14, D25 IO_L9N_T1_DQS_D13_14, D26 IO_L8N_T1_D12_14, D27 IO_L10N_T1_D15_14, E8 IO_L17N_T2_A25_15, E9 IO_L17P_T2_A26_15, E10 VCCO_15, E11 IO_L13N_T2_MRCC_15, E12 IO_L13P_T2_MRCC_15, E13 IO_L14P_T2_SRCC_15, E23 IO_L7N_T1_D10_14, E24 IO_L11N_T1_SRCC_14, E26 IO_L8P_T1_D11_14, E27 IO_L10P_T1_D14_14, F10 IO_L12N_T1_MRCC_15, F11 IO_L11N_T1_SRCC_15, F13 IO_L7N_T1_AD2N_15, F23 IO_L7P_T1_D09_14, F24 IO_L11P_T1_SRCC_14, F25 IO_L12N_T1_MRCC_14, G10 IO_L12P_T1_MRCC_15, G11 IO_L11P_T1_SRCC_15, G12 IO_L9N_T1_DQS_AD3N_15, G13 IO_L7P_T1_AD2P_15, G23 IO_L14N_T2_SRCC_14, G24 VCCO_14, G25 IO_L12P_T1_MRCC_14, H10 IO_L10N_T1_AD11N_15, H11 VCCO_15, H12 IO_L9P_T1_DQS_AD3P_15, H22 IO_L16N_T2_A15_D31_14, H23 IO_L14P_T2_SRCC_14, H24 IO_L13N_T2_MRCC_14, H25 IO_L15N_T2_DQS_DOUT_CSO_B_14, J10 IO_L10P_T1_AD11P_15, J11 IO_L8N_T1_AD10N_15, J12 IO_L1N_T0_AD0N_15, J22 IO_L16P_T2_CSI_B_14, J24 IO_L13P_T2_MRCC_14, J25 IO_L15P_T2_DQS_RDWR_B_14, K11 IO_L8P_T1_AD10P_15, K12 IO_L1P_T0_AD0P_15, K22 IO_L18P_T2_A12_D28_14, K23 IO_L18N_T2_A11_D27_14, K24 IO_L17N_T2_A13_D29_14, K25 VCCO_14, L10 IO_L3N_T0_DQS_AD1N_15, L11 IO_L5N_T0_AD9N_15, L12 VCCO_15, L22 VCCO_14, L23 IO_L20N_T3_A07_D23_14, L24 IO_L17P_T2_A14_D30_14, L25 IO_L23N_T3_A02_D18_14, M10 IO_L3P_T0_DQS_AD1P_15, M11 IO_L5P_T0_AD9P_15, M12 IO_L2N_T0_AD8N_15, M22 IO_L20P_T3_A08_D24_14, M23 IO_L24N_T3_A00_D16_14, M25 IO_L23P_T3_A03_D19_14, N10 IO_L4N_T0_15, N12 IO_L2P_T0_AD8P_15, N22 IO_L22N_T3_A04_D20_14, N23 IO_L24P_T3_A01_D17_14, N24 IO_L19N_T3_A09_D25_VREF_14, N25 IO_L21N_T3_DQS_A06_D22_14, P10 IO_L4P_T0_15, P11 IO_L6N_T0_VREF_15, P12 IO_L6P_T0_15, P13 VCCO_15, P22 IO_L22P_T3_A05_D21_14, P23 VCCO_14, P24 IO_L19P_T3_A10_D26_14, P25 IO_L21P_T3_DQS_14, R11 IO_25_VRP_15, R13 IO_0_VRN_15, R23 IO_0_VRN_14, R25 IO_25_VRP_14
part B pins: A14 IO_L1N_T0_16, A15 IO_L1P_T0_16, A16 IO_L4N_T0_16, A18 IO_L4N_T0_17, A19 IO_L1P_T0_17, A20 IO_L1N_T0_17, A21 IO_L3N_T0_DQS_17, A22 VCCO_17, B15 IO_L3N_T0_DQS_16, B16 IO_L4P_T0_16, B17 IO_L2N_T0_16, B18 IO_L4P_T0_17, B19 VCCO_17, B20 IO_L2N_T0_17, B21 IO_L3P_T0_DQS_17, B22 IO_L5N_T0_17, C14 IO_L5N_T0_16, C15 IO_L3P_T0_DQS_16, C16 VCCO_16, C17 IO_L2P_T0_16, C18 IO_L6P_T0_17, C19 IO_L6N_T0_VREF_17, C20 IO_L2P_T0_17, C22 IO_L5P_T0_17, D13 VCCO_16, D14 IO_L10N_T1_16, D15 IO_L5P_T0_16, D16 IO_L6N_T0_VREF_16, D17 IO_L6P_T0_16, D19 IO_L9P_T1_DQS_17, D20 IO_L9N_T1_DQS_17, D21 IO_L11N_T1_SRCC_17, D22 IO_L7N_T1_17, E14 IO_L10P_T1_16, E16 IO_L8N_T1_16, E17 IO_L8P_T1_16, E18 IO_L8P_T1_17, E19 IO_L8N_T1_17, E20 VCCO_17, E21 IO_L11P_T1_SRCC_17, E22 IO_L7P_T1_17, F14 IO_L12N_T1_MRCC_16, F15 IO_L12P_T1_MRCC_16, F16 IO_L9N_T1_DQS_16, F17 VCCO_16, F18 IO_L10P_T1_17, F19 IO_L10N_T1_17, F20 IO_L12P_T1_MRCC_17, F21 IO_L12N_T1_MRCC_17, G14 VCCO_16, G15 IO_L11N_T1_SRCC_16, G16 IO_L9P_T1_DQS_16, G17 IO_L7N_T1_16, G18 IO_L15N_T2_DQS_17, G20 IO_L13N_T2_MRCC_17, G21 IO_L14P_T2_SRCC_17, G22 IO_L14N_T2_SRCC_17, H13 IO_L13N_T2_MRCC_16, H14 IO_L13P_T2_MRCC_16, H15 IO_L11P_T1_SRCC_16, H17 IO_L7P_T1_16, H18 IO_L15P_T2_DQS_17, H19 IO_L18N_T2_17, H20 IO_L13P_T2_MRCC_17, H21 VCCO_17, J14 IO_L14N_T2_SRCC_16, J15 IO_L16N_T2_16, J16 IO_L16P_T2_16, J17 IO_0_VRN_16, J18 VCCO_17, J19 IO_L18P_T2_17, J20 IO_L16P_T2_17, J21 IO_L16N_T2_17, K13 IO_L17N_T2_16, K14 IO_L14P_T2_SRCC_16, K15 VCCO_16, K16 IO_L18N_T2_16, K17 IO_L18P_T2_16, K18 IO_L17P_T2_17, K19 IO_L17N_T2_17, K21 IO_0_VRN_17, L13 IO_L17P_T2_16, L14 IO_L15N_T2_DQS_16, L15 IO_L15P_T2_DQS_16, L16 IO_L20N_T3_16, L18 IO_L19P_T3_17, L19 IO_L19N_T3_VREF_17, L20 IO_L22N_T3_17, L21 IO_L20N_T3_17, M13 IO_L19N_T3_VREF_16, M15 IO_L22N_T3_16, M16 IO_L20P_T3_16, M17 IO_L24N_T3_16, M18 IO_L21N_T3_DQS_17, M19 VCCO_17, M20 IO_L22P_T3_17, M21 IO_L20P_T3_17, N13 IO_L19P_T3_16, N14 IO_L21N_T3_DQS_16, N15 IO_L22P_T3_16, N16 VCCO_16, N17 IO_L24P_T3_16, N18 IO_L21P_T3_DQS_17, N19 IO_L23N_T3_17, N20 IO_L24N_T3_17, P14 IO_L21P_T3_DQS_16, P15 IO_L23N_T3_16, P16 IO_L23P_T3_16, P17 IO_25_VRP_16, P19 IO_L23P_T3_17, P20 IO_L24P_T3_17, P21 IO_25_VRP_17
part C pins: AD16 IO_25_VRP_34, AD18 IO_0_VRN_34, AE16 IO_L1N_T0_34, AE17 IO_L1P_T0_34, AE18 IO_L5P_T0_34, AE19 IO_L3P_T0_DQS_34, AE20 VCCO_34, AE21 IO_25_VRP_35, AE22 IO_0_VRN_35, AE23 IO_L2P_T0_AD12P_35, AE24 IO_L4P_T0_35, AF15 IO_L15P_T2_DQS_34, AF16 IO_L6P_T0_34, AF17 VCCO_34, AF18 IO_L5N_T0_34, AF19 IO_L3N_T0_DQS_34, AF20 IO_L2P_T0_34, AF21 IO_L6P_T0_35, AF23 IO_L2N_T0_AD12N_35, AF24 IO_L4N_T0_35, AF25 IO_L1P_T0_AD4P_35, AG15 IO_L15N_T2_DQS_34, AG16 IO_L6N_T0_VREF_34, AG17 IO_L4N_T0_34, AG18 IO_L4P_T0_34, AG20 IO_L2N_T0_34, AG21 IO_L6N_T0_VREF_35, AG22 IO_L5P_T0_AD13P_35, AG23 IO_L3P_T0_DQS_AD5P_35, AG24 VCCO_35, AG25 IO_L1N_T0_AD4N_35, AH15 IO_L17P_T2_34, AH17 IO_L16N_T2_34, AH18 IO_L16P_T2_34, AH19 IO_L18P_T2_34, AH20 IO_L7P_T1_34, AH21 VCCO_35, AH22 IO_L5N_T0_AD13N_35, AH23 IO_L3N_T0_DQS_AD5N_35, AH24 IO_L11P_T1_SRCC_35, AH25 IO_L9P_T1_DQS_AD7P_35, AJ15 IO_L17N_T2_34, AJ16 IO_L13P_T2_MRCC_34, AJ17 IO_L14P_T2_SRCC_34, AJ18 VCCO_34, AJ19 IO_L18N_T2_34, AJ20 IO_L7N_T1_34, AJ21 IO_L10P_T1_AD15P_35, AJ22 IO_L8P_T1_AD14P_35, AJ24 IO_L11N_T1_SRCC_35, AJ25 IO_L9N_T1_DQS_AD7N_35, AJ26 IO_L7P_T1_AD6P_35, AJ27 IO_L19P_T3_35, AK15 VCCO_34, AK16 IO_L13N_T2_MRCC_34, AK17 IO_L14N_T2_SRCC_34, AK18 IO_L12P_T1_MRCC_34, AK19 IO_L11P_T1_SRCC_34, AK21 IO_L10N_T1_AD15N_35, AK22 IO_L8N_T1_AD14N_35, AK23 IO_L12P_T1_MRCC_35, AK24 IO_L12N_T1_MRCC_35, AK25 VCCO_35, AK26 IO_L7N_T1_AD6N_35, AK27 IO_L19N_T3_VREF_35, AL15 IO_L19P_T3_34, AL16 IO_L20P_T3_34, AL18 IO_L12N_T1_MRCC_34, AL19 IO_L11N_T1_SRCC_34, AL20 IO_L9P_T1_DQS_34, AL21 IO_L17P_T2_35, AL22 VCCO_35, AL23 IO_L14P_T2_SRCC_35, AL24 IO_L14N_T2_SRCC_35, AL25 IO_L13P_T2_MRCC_35, AL26 IO_L13N_T2_MRCC_35, AM15 IO_L19N_T3_VREF_34, AM16 IO_L20N_T3_34, AM17 IO_L8N_T1_34, AM18 IO_L8P_T1_34, AM19 VCCO_34, AM20 IO_L9N_T1_DQS_34, AM21 IO_L17N_T2_35, AM22 IO_L16P_T2_35, AM23 IO_L15P_T2_DQS_35, AM25 IO_L20P_T3_35, AM26 IO_L20N_T3_35, AM27 IO_L21P_T3_DQS_35, AN15 IO_L23P_T3_34, AN16 VCCO_34, AN17 IO_L22N_T3_34, AN18 IO_L22P_T3_34, AN19 IO_L24P_T3_34, AN20 IO_L10P_T1_34, AN22 IO_L16N_T2_35, AN23 IO_L15N_T2_DQS_35, AN24 IO_L22P_T3_35, AN25 IO_L24P_T3_35, AN26 VCCO_35, AN27 IO_L21N_T3_DQS_35, AP15 IO_L23N_T3_34, AP16 IO_L21N_T3_DQS_34, AP17 IO_L21P_T3_DQS_34, AP19 IO_L24N_T3_34, AP20 IO_L10N_T1_34, AP21 IO_L18P_T2_35, AP22 IO_L18N_T2_35, AP23 VCCO_35, AP24 IO_L22N_T3_35, AP25 IO_L24N_T3_35, AP26 IO_L23P_T3_35, AP27 IO_L23N_T3_35
part D pins: AD14 IO_25_VRP_36, AE11 IO_L3P_T0_DQS_36, AE12 IO_0_VRN_36, AE13 IO_L16P_T2_36, AE14 IO_L18P_T2_36, AF10 IO_L3N_T0_DQS_36, AF11 IO_L5P_T0_36, AF13 IO_L16N_T2_36, AF14 IO_L18N_T2_36, AG10 IO_L6P_T0_36, AG11 IO_L5N_T0_36, AG12 IO_L15P_T2_DQS_36, AG13 IO_L17P_T2_36, AG14 VCCO_36, AH10 IO_L6N_T0_VREF_36, AH11 VCCO_36, AH12 IO_L15N_T2_DQS_36, AH13 IO_L17N_T2_36, AH14 IO_L19P_T3_36, AJ8 VCCO_36, AJ9 IO_L1N_T0_36, AJ10 IO_L1P_T0_36, AJ11 IO_L13P_T2_MRCC_36, AJ12 IO_L14P_T2_SRCC_36, AJ14 IO_L19N_T3_VREF_36, AK8 IO_L2P_T0_36, AK9 IO_L4P_T0_36, AK11 IO_L13N_T2_MRCC_36, AK12 IO_L14N_T2_SRCC_36, AK13 IO_L21P_T3_DQS_36, AK14 IO_L23P_T3_36, AL8 IO_L2N_T0_36, AL9 IO_L4N_T0_36, AL10 IO_L12P_T1_MRCC_36, AL11 IO_L11P_T1_SRCC_36, AL12 VCCO_36, AL13 IO_L21N_T3_DQS_36, AL14 IO_L23N_T3_36, AM8 IO_L8P_T1_36, AM9 VCCO_36, AM10 IO_L12N_T1_MRCC_36, AM11 IO_L11N_T1_SRCC_36, AM12 IO_L20P_T3_36, AM13 IO_L22P_T3_36, AN8 IO_L8N_T1_36, AN9 IO_L10P_T1_36, AN10 IO_L7P_T1_36, AN12 IO_L20N_T3_36, AN13 IO_L22N_T3_36, AN14 IO_L24P_T3_36, AP9 IO_L10N_T1_36, AP10 IO_L7N_T1_36, AP11 IO_L9N_T1_DQS_36, AP12 IO_L9P_T1_DQS_36, AP13 VCCO_36, AP14 IO_L24N_T3_36
part E pins: AB5 MGTREFCLK0N_115, AB6 MGTREFCLK0P_115, AC7 MGTREFCLK1N_115, AC8 MGTREFCLK1P_115, AD1 MGTHTXN3_115, AD2 MGTHTXP3_115, AD5 MGTREFCLK0N_114, AD6 MGTREFCLK0P_114, AE3 MGTHRXN3_115, AE4 MGTHRXP3_115, AE7 MGTREFCLK1N_114, AE8 MGTREFCLK1P_114, AF1 MGTHTXN2_115, AF2 MGTHTXP2_115, AF5 MGTHRXN2_115, AF6 MGTHRXP2_115, AG3 MGTHRXN1_115, AG4 MGTHRXP1_115, AH1 MGTHTXN1_115, AH2 MGTHTXP1_115, AH5 MGTHRXN0_115, AH6 MGTHRXP0_115, AJ3 MGTHTXN0_115, AJ4 MGTHTXP0_115, AK1 MGTHTXN3_114, AK2 MGTHTXP3_114, AK5 MGTHRXN3_114, AK6 MGTHRXP3_114, AL3 MGTHRXN2_114, AL4 MGTHRXP2_114, AM1 MGTHTXN2_114, AM2 MGTHTXP2_114, AM5 MGTHRXN1_114, AM6 MGTHRXP1_114, AN3 MGTHTXN1_114, AN4 MGTHTXP1_114, AP1 MGTHTXN0_114, AP2 MGTHTXP0_114, AP5 MGTHRXN0_114, AP6 MGTHRXP0_114
part F pins: AA3 MGTHRXN1_116, AA4 MGTHRXP1_116, AA7 MGTREFCLK1N_116, AA8 MGTREFCLK1P_116, AB1 MGTHTXN0_116, AB2 MGTHTXP0_116, AC3 MGTHRXN0_116, AC4 MGTHRXP0_116, L3 MGTHRXN3_117, L4 MGTHRXP3_117, N3 MGTHTXN3_117, N4 MGTHTXP3_117, P1 MGTHTXN2_117, P2 MGTHTXP2_117, P5 MGTHRXN2_117, P6 MGTHRXP2_117, R3 MGTHRXN1_117, R4 MGTHRXP1_117, R7 MGTREFCLK0N_117, R8 MGTREFCLK0P_117, T1 MGTHTXN1_117, T2 MGTHTXP1_117, T5 MGTHRXN0_117, T6 MGTHRXP0_117, U3 MGTHTXN0_117, U4 MGTHTXP0_117, U7 MGTREFCLK1N_117, U8 MGTREFCLK1P_117, V1 MGTHTXN3_116, V2 MGTHTXP3_116, V5 MGTHRXN3_116, V6 MGTHRXP3_116, W3 MGTHTXN2_116, W4 MGTHTXP2_116, W7 MGTREFCLK0N_116, W8 MGTREFCLK0P_116, Y1 MGTHTXN1_116, Y2 MGTHTXP1_116, Y5 MGTHRXN2_116, Y6 MGTHRXP2_116
part G pins: A3 MGTHTXN3_119, A4 MGTHTXP3_119, B1 MGTHTXN2_119, B2 MGTHTXP2_119, B5 MGTHRXN3_119, B6 MGTHRXP3_119, C3 MGTHRXN2_119, C4 MGTHRXP2_119, D1 MGTHTXN1_119, D2 MGTHTXP1_119, D5 MGTHRXN1_119, D6 MGTHRXP1_119, E3 MGTHRXN0_119, E4 MGTHRXP0_119, F1 MGTHTXN0_119, F2 MGTHTXP0_119, F5 MGTHRXN3_118, F6 MGTHRXP3_118, G3 MGTHTXN3_118, G4 MGTHTXP3_118, H1 MGTHTXN2_118, H2 MGTHTXP2_118, H5 MGTHRXN2_118, H6 MGTHRXP2_118, J3 MGTHRXN1_118, J4 MGTHRXP1_118, J7 MGTREFCLK0N_119, J8 MGTREFCLK0P_119, K1 MGTHTXN1_118, K2 MGTHTXP1_118, K5 MGTHRXN0_118, K6 MGTHRXP0_118, L7 MGTREFCLK1N_119, L8 MGTREFCLK1P_119, M1 MGTHTXN0_118, M2 MGTHTXP0_118, M5 MGTREFCLK0N_118, M6 MGTREFCLK0P_118, N7 MGTREFCLK1N_118, N8 MGTREFCLK1P_118
part H pins: AB29 MGTREFCLK0P_215, AB30 MGTREFCLK0N_215, AC27 MGTREFCLK1P_215, AC28 MGTREFCLK1N_215, AD29 MGTREFCLK0P_214, AD30 MGTREFCLK0N_214, AD33 MGTHTXP3_215, AD34 MGTHTXN3_215, AE27 MGTREFCLK1P_214, AE28 MGTREFCLK1N_214, AE31 MGTHRXP3_215, AE32 MGTHRXN3_215, AF29 MGTHRXP2_215, AF30 MGTHRXN2_215, AF33 MGTHTXP2_215, AF34 MGTHTXN2_215, AG31 MGTHRXP1_215, AG32 MGTHRXN1_215, AH29 MGTHRXP0_215, AH30 MGTHRXN0_215, AH33 MGTHTXP1_215, AH34 MGTHTXN1_215, AJ31 MGTHTXP0_215, AJ32 MGTHTXN0_215, AK29 MGTHRXP3_214, AK30 MGTHRXN3_214, AK33 MGTHTXP3_214, AK34 MGTHTXN3_214, AL31 MGTHRXP2_214, AL32 MGTHRXN2_214, AM29 MGTHRXP1_214, AM30 MGTHRXN1_214, AM33 MGTHTXP2_214, AM34 MGTHTXN2_214, AN31 MGTHTXP1_214, AN32 MGTHTXN1_214, AP29 MGTHRXP0_214, AP30 MGTHRXN0_214, AP33 MGTHTXP0_214, AP34 MGTHTXN0_214
part I pins: AA27 MGTREFCLK1P_216, AA28 MGTREFCLK1N_216, AA31 MGTHRXP1_216, AA32 MGTHRXN1_216, AB33 MGTHTXP0_216, AB34 MGTHTXN0_216, AC31 MGTHRXP0_216, AC32 MGTHRXN0_216, L31 MGTHRXP3_217, L32 MGTHRXN3_217, N31 MGTHTXP3_217, N32 MGTHTXN3_217, P29 MGTHRXP2_217, P30 MGTHRXN2_217, P33 MGTHTXP2_217, P34 MGTHTXN2_217, R27 MGTREFCLK0P_217, R28 MGTREFCLK0N_217, R31 MGTHRXP1_217, R32 MGTHRXN1_217, T29 MGTHRXP0_217, T30 MGTHRXN0_217, T33 MGTHTXP1_217, T34 MGTHTXN1_217, U27 MGTREFCLK1P_217, U28 MGTREFCLK1N_217, U31 MGTHTXP0_217, U32 MGTHTXN0_217, V29 MGTHRXP3_216, V30 MGTHRXN3_216, V33 MGTHTXP3_216, V34 MGTHTXN3_216, W27 MGTREFCLK0P_216, W28 MGTREFCLK0N_216, W31 MGTHTXP2_216, W32 MGTHTXN2_216, Y29 MGTHRXP2_216, Y30 MGTHRXN2_216, Y33 MGTHTXP1_216, Y34 MGTHTXN1_216
part J pins: A31 MGTHTXP3_219, A32 MGTHTXN3_219, B29 MGTHRXP3_219, B30 MGTHRXN3_219, B33 MGTHTXP2_219, B34 MGTHTXN2_219, C31 MGTHRXP2_219, C32 MGTHRXN2_219, D29 MGTHRXP1_219, D30 MGTHRXN1_219, D33 MGTHTXP1_219, D34 MGTHTXN1_219, E31 MGTHRXP0_219, E32 MGTHRXN0_219, F29 MGTHRXP3_218, F30 MGTHRXN3_218, F33 MGTHTXP0_219, F34 MGTHTXN0_219, G31 MGTHTXP3_218, G32 MGTHTXN3_218, H29 MGTHRXP2_218, H30 MGTHRXN2_218, H33 MGTHTXP2_218, H34 MGTHTXN2_218, J27 MGTREFCLK0P_219, J28 MGTREFCLK0N_219, J31 MGTHRXP1_218, J32 MGTHRXN1_218, K29 MGTHRXP0_218, K30 MGTHRXN0_218, K33 MGTHTXP1_218, K34 MGTHTXN1_218, L27 MGTREFCLK1P_219, L28 MGTREFCLK1N_219, M29 MGTREFCLK0P_218, M30 MGTREFCLK0N_218, M33 MGTHTXP0_218, M34 MGTHTXN0_218, N27 MGTREFCLK1P_218, N28 MGTREFCLK1N_218
part K pins: AA6 MGTAVCC_G10, AA29 MGTAVCC_G20, AC2 MGTAVTT_G10, AC6 MGTAVCC_G10, AC29 MGTAVCC_G20, AC33 MGTAVTT_G20, AD3 MGTAVTT_G10, AD32 MGTAVTT_G20, AE6 MGTAVCC_G10, AE29 MGTAVCC_G20, AG2 MGTAVTT_G10, AG6 MGTAVCC_G10, AG29 MGTAVCC_G20, AG33 MGTAVTT_G20, AH3 MGTAVTT_G10, AH32 MGTAVTT_G20, AJ6 MGTAVCC_G10, AJ29 MGTAVCC_G20, AL2 MGTAVTT_G10, AL6 MGTAVCC_G10, AL29 MGTAVCC_G20, AL33 MGTAVTT_G20, AM3 MGTAVTT_G10, AM32 MGTAVTT_G20, AN6 MGTAVCC_G10, AN29 MGTAVCC_G20, C2 MGTAVTT_G11, C6 MGTAVCC_G11, C29 MGTAVCC_G21, C33 MGTAVTT_G21, D3 MGTAVTT_G11, D32 MGTAVTT_G21, E6 MGTAVCC_G11, E29 MGTAVCC_G21, G2 MGTAVTT_G11, G6 MGTAVCC_G11, G7 MGTRREF_115, G8 MGTAVTTRCAL_115, G27 MGTAVTTRCAL_215, G28 MGTRREF_215, G29 MGTAVCC_G21, G33 MGTAVTT_G21, H3 MGTAVTT_G11, H32 MGTAVTT_G21, J6 MGTAVCC_G11, J29 MGTAVCC_G21, L2 MGTAVTT_G11, L6 MGTAVCC_G11, L29 MGTAVCC_G21, L33 MGTAVTT_G21, M3 MGTAVTT_G11, M32 MGTAVTT_G21, N6 MGTAVCC_G11, N29 MGTAVCC_G21, R2 MGTAVTT_G11, R6 MGTAVCC_G11, R29 MGTAVCC_G21, R33 MGTAVTT_G21, T3 MGTAVTT_G11, T32 MGTAVTT_G21, U6 MGTVCCAUX_G11, U29 MGTVCCAUX_G21, W2 MGTAVTT_G10, W6 MGTVCCAUX_G10, W29 MGTVCCAUX_G20, W33 MGTAVTT_G20, Y3 MGTAVTT_G10, Y32 MGTAVTT_G20
part L pins: AA10 M0_0, AA17 DXN_0, AA18 DXP_0, AA25 TDO_0, AB10 DONE_0, AB25 TDI_0, AC11 VCCO_0, AE10 VCCO_0, T10 INIT_B_0, U10 CFGBVS_0, V10 PROGRAM_B_0, V25 CCLK_0, W10 M2_0, W17 VREFN_0, W18 VP_0, W25 TMS_0, Y10 M1_0, Y17 VN_0, Y18 VREFP_0, Y25 TCK_0
part M pins: A1 GND, A2 GND, A5 GND, A6 GND, A7 GND, A17 GND, A27 GND, A28 GND, A29 GND, A30 GND, A33 GND, A34 GND, AA12 VCCINT, AA14 VCCAUX_IO_G1, AA16 VCCINT, AA20 VCCAUX_IO_G0, AA22 VCCINT, AA24 VCCINT, AB11 VCCINT, AB13 VCCAUX, AB15 VCCINT, AB17 VCCINT, AB19 VCCBRAM, AB21 VCCAUX, AB23 VCCINT, AC10 VCCINT, AC12 VCCINT, AC14 VCCAUX_IO_G1, AC16 VCCINT, AC18 VCCINT, AC20 VCCAUX_IO_G0, AC22 VCCINT, AC24 VCCINT, AD11 VCCINT, AD13 VCCAUX, AD15 VCCINT, AD17 VCCINT, AD19 VCCBRAM, AD21 VCCAUX, AD23 VCCINT, AD25 VCCINT, B3 GND, B4 GND, B7 GND, B14 GND, B24 GND, B28 GND, B31 GND, B32 GND, C1 GND, C5 GND, C7 GND, C11 GND, C21 GND, C28 GND, C30 GND, C34 GND, D4 GND, D7 GND, D8 GND, D18 GND, D28 GND, D31 GND, E1 GND, E2 GND, E5 GND, E7 GND, E15 GND, E25 GND, E28 GND, E30 GND, E33 GND, E34 GND, F3 GND, F4 GND, F7 GND, F8 GND, F9 GND, F12 GND, F22 GND, F26 GND, F27 GND, F28 GND, F31 GND, F32 GND, G1 GND, G5 GND, G9 GND, G19 GND, G26 GND, G30 GND, G34 GND, H4 GND, H7 GND, H8 GND, H9 GND, H16 GND, H26 GND, H27 GND, H28 GND, H31 GND, J1 GND, J2 GND, J5 GND, J9 GND, J13 GND, J23 GND, J26 GND, J30 GND, J33 GND, J34 GND, K3 GND, K4 GND, K7 GND, K8 GND, K9 GND, K10 GND, K20 GND, K26 GND, K27 GND, K28 GND, K31 GND, K32 GND, L1 GND, L5 GND, L9 GND, L17 GND, L26 GND, L30 GND, R10 VCCINT, R12 VCCINT, R14 VCCINT, R16 VCCINT, R18 VCCINT, R20 VCCBRAM, R22 VCCINT, R24 VCCINT, T11 VCCINT, T13 VCCINT, T15 VCCINT, T17 VCCINT, T19 VCCBRAM, T21 VCCINT, T23 VCCINT, T25 VCCINT, U12 VCCINT, U14 VCCINT, U16 VCCINT, U18 VCCINT, U20 VCCAUX_IO_G0, U22 VCCINT, U24 VCCINT, U25 VCCBATT_0, V11 VCCINT, V13 VCCAUX, V15 VCCINT, V17 GNDADC_0, V18 VCCADC_0, V19 VCCBRAM, V21 VCCAUX, V23 VCCINT, W12 VCCINT, W14 VCCAUX_IO_G1, W16 VCCINT, W20 VCCAUX_IO_G0, W22 VCCINT, W24 VCCINT, Y11 VCCINT, Y13 VCCAUX, Y15 VCCINT, Y19 VCCBRAM, Y21 VCCAUX, Y23 VCCINT
part N pins: AA1 GND, AA2 GND, AA5 GND, AA9 GND, AA11 GND, AA13 GND, AA15 GND, AA19 GND, AA21 GND, AA23 GND, AA26 GND, AA30 GND, AA33 GND, AA34 GND, AB3 GND, AB4 GND, AB7 GND, AB8 GND, AB9 GND, AB12 GND, AB14 GND, AB16 GND, AB18 GND, AB20 GND, AB22 GND, AB24 GND, AB26 GND, AB27 GND, AB28 GND, AB31 GND, AB32 GND, AC1 GND, AC5 GND, AC9 GND, AC13 GND, AC15 GND, AC17 GND, AC19 GND, AC21 GND, AC23 GND, AC25 GND, AC26 GND, AC30 GND, AC34 GND, AD4 GND, AD7 GND, AD8 GND, AD9 GND, AD10 GND, AD12 GND, AD20 GND, AD22 GND, AD24 GND, AD26 GND, AD27 GND, AD28 GND, AD31 GND, AE1 GND, AE2 GND, AE5 GND, AE9 GND, AE15 GND, AE25 GND, AE26 GND, AE30 GND, AE33 GND, AE34 GND, AF3 GND, AF4 GND, AF7 GND, AF8 GND, AF9 GND, AF12 GND, AF22 GND, AF26 GND, AF27 GND, AF28 GND, AF31 GND, AF32 GND, AG1 GND, AG5 GND, AG7 GND, AG8 GND, AG9 GND, AG19 GND, AG26 GND, AG27 GND, AG28 GND, AG30 GND, AG34 GND, AH4 GND, AH7 GND, AH8 GND, AH9 GND, AH16 GND, AH26 GND, AH27 GND, AH28 GND, AH31 GND, AJ1 GND, AJ2 GND, AJ5 GND, AJ7 GND, AJ13 GND, AJ23 GND, AJ28 GND, AJ30 GND, AJ33 GND, AJ34 GND, AK3 GND, AK4 GND, AK7 GND, AK10 GND, AK20 GND, AK28 GND, AK31 GND, AK32 GND, AL1 GND, AL5 GND, AL7 GND, AL17 GND, AL27 GND, AL28 GND, AL30 GND, AL34 GND, AM4 GND, AM7 GND, AM14 GND, AM24 GND, AM28 GND, AM31 GND, AN1 GND, AN2 GND, AN5 GND, AN7 GND, AN11 GND, AN21 GND, AN28 GND, AN30 GND, AN33 GND, AN34 GND, AP3 GND, AP4 GND, AP7 GND, AP8 GND, AP18 GND, AP28 GND, AP31 GND, AP32 GND, L34 GND, M4 GND, M7 GND, M8 GND, M9 GND, M14 GND, M24 GND, M26 GND, M27 GND, M28 GND, M31 GND, N1 GND, N2 GND, N5 GND, N9 GND, N11 GND, N21 GND, N26 GND, N30 GND, N33 GND, N34 GND, P3 GND, P4 GND, P7 GND, P8 GND, P9 GND, P18 GND, P26 GND, P27 GND, P28 GND, P31 GND, P32 GND, R1 GND, R5 GND, R9 GND, R15 GND, R17 GND, R19 GND, R21 GND, R26 GND, R30 GND, R34 GND, T4 GND, T7 GND, T8 GND, T9 GND, T12 GND, T14 GND, T16 GND, T18 GND, T20 GND, T22 GND, T24 GND, T26 GND, T27 GND, T28 GND, T31 GND, U1 GND, U2 GND, U5 GND, U9 GND, U11 GND, U13 GND, U15 GND, U17 GND, U19 GND, U21 GND, U23 GND, U26 GND, U30 GND, U33 GND, U34 GND, V3 GND, V4 GND, V7 GND, V8 GND, V9 GND, V12 GND, V14 GND, V16 GND, V20 GND, V22 GND, V24 GND, V26 GND, V27 GND, V28 GND, V31 GND, V32 GND, W1 GND, W5 GND, W9 GND, W11 GND, W13 GND, W15 GND, W19 GND, W21 GND, W23 GND, W26 GND, W30 GND, W34 GND, Y4 GND, Y7 GND, Y8 GND, Y9 GND, Y12 GND, Y14 GND, Y16 GND, Y20 GND, Y22 GND, Y24 GND, Y26 GND, Y27 GND, Y28 GND, Y31 GND

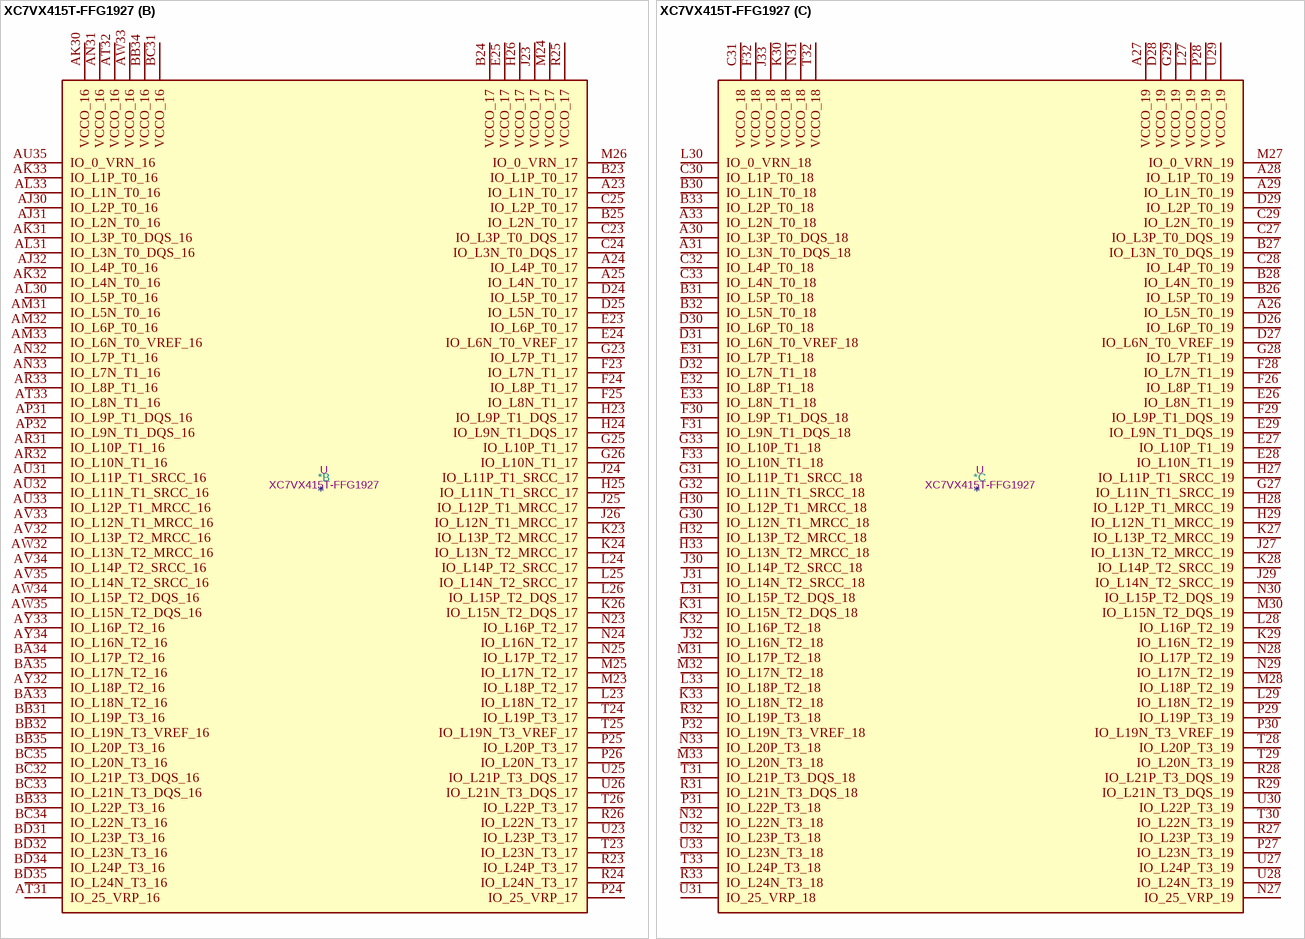
[diagram p68: symbol XC7VX415T-FFG1927]

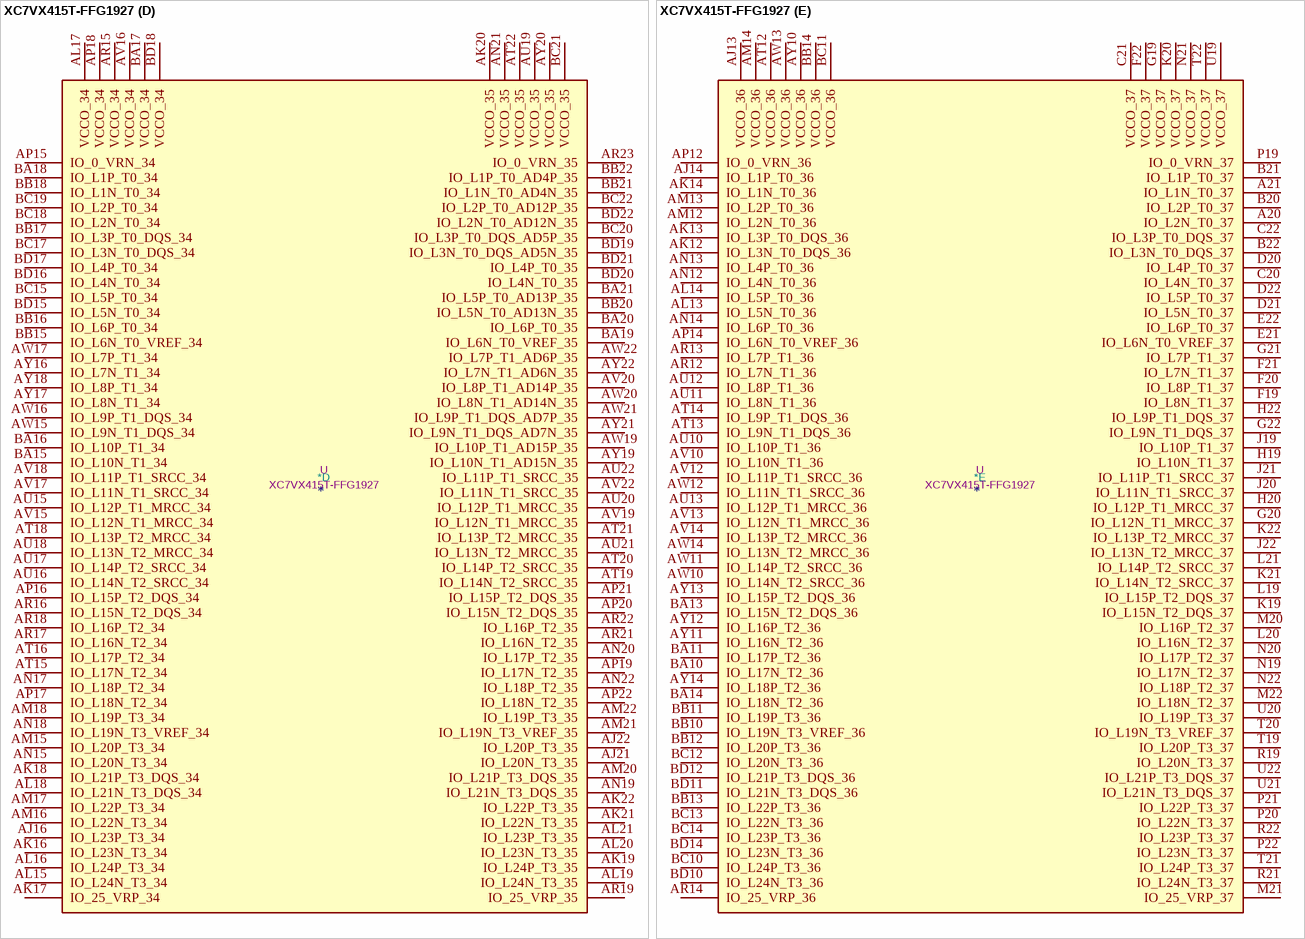
[diagram p69: symbol XC7VX415T-FFG1927]

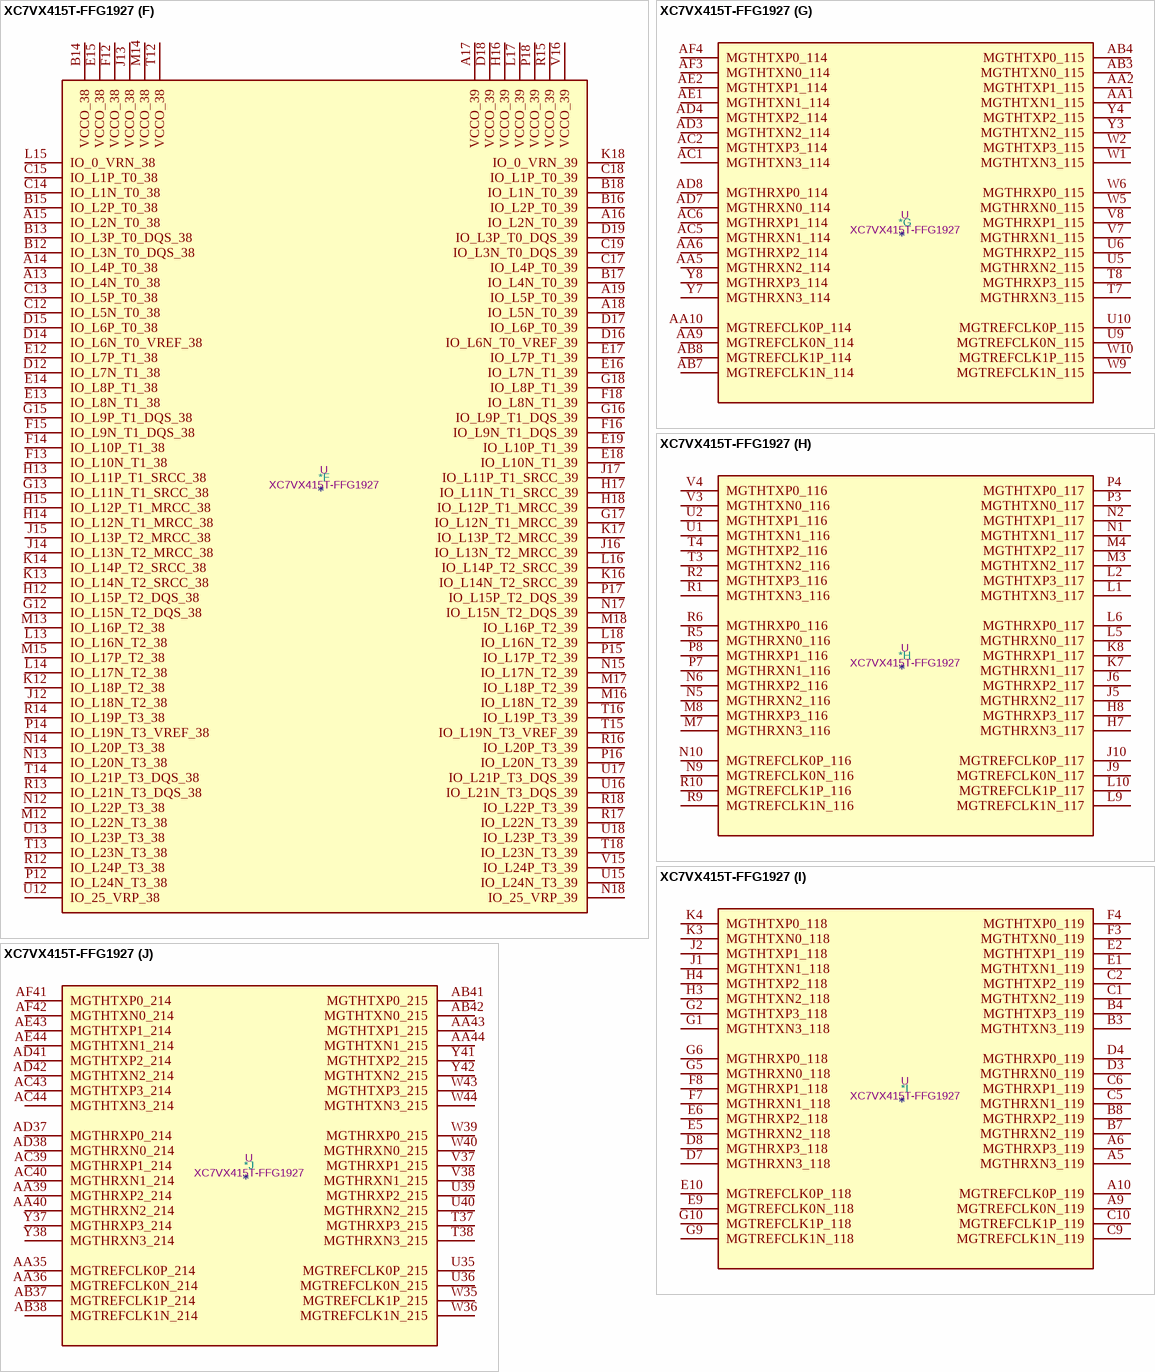
[diagram p70: symbol XC7VX415T-FFG1927]

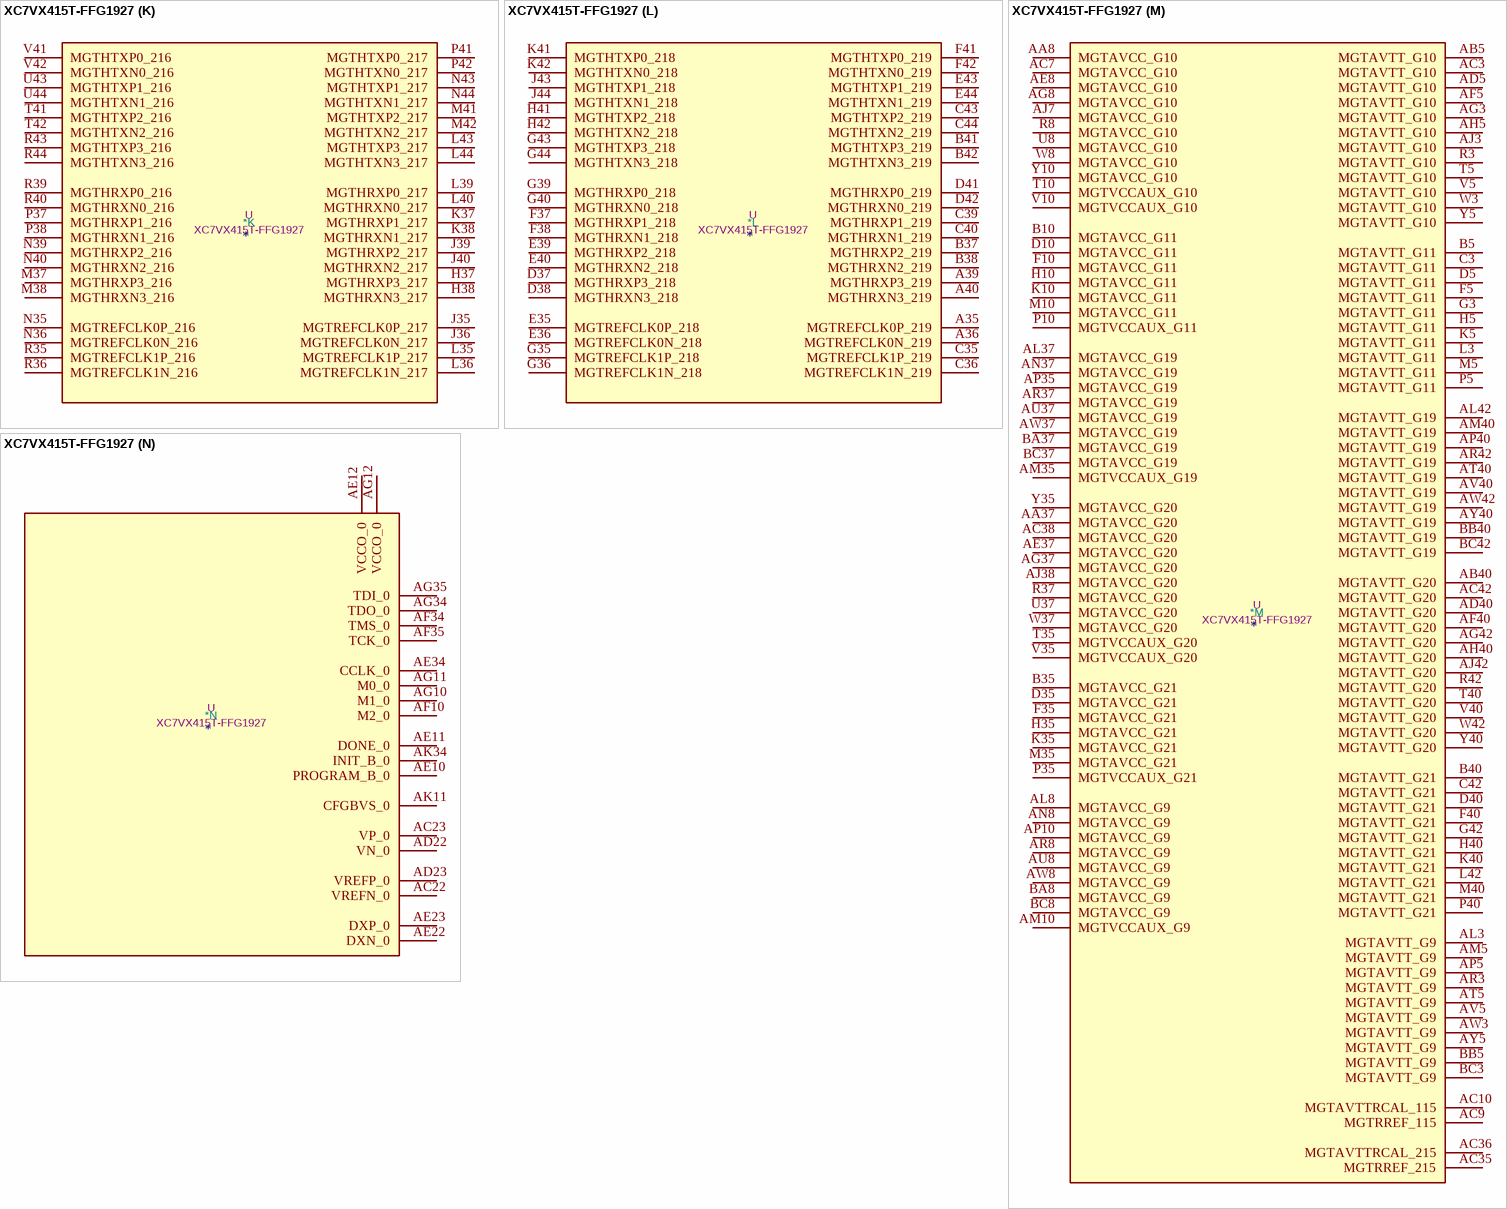
[diagram p71: symbol XC7VX415T-FFG1927]

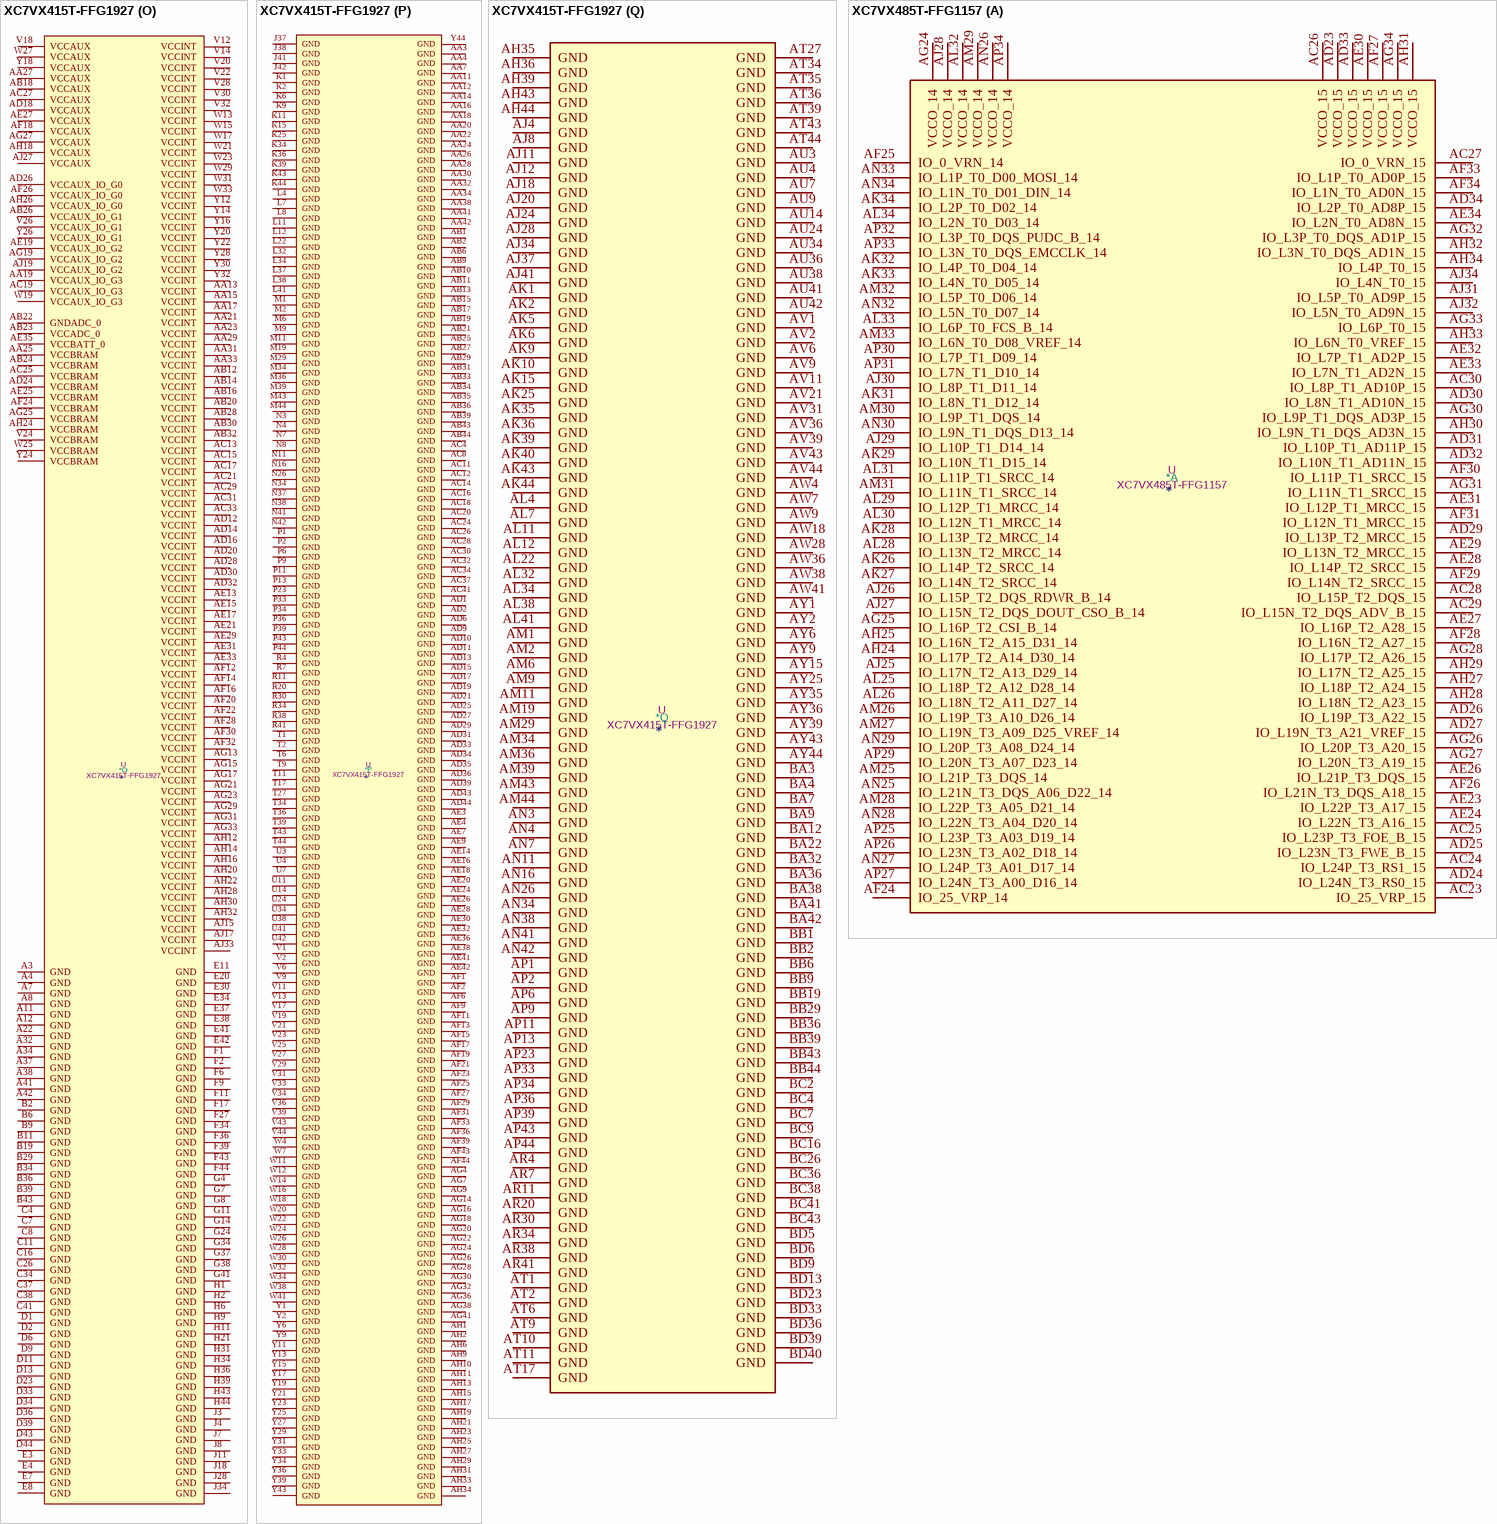
[diagram p72: symbols XC7VX415T-FFG1927 to XC7VX485T-FFG1157]